# Altium integrated library Protel DOS Schematic Libraries.IntLib: 1273 symbols (part 8 of 9)
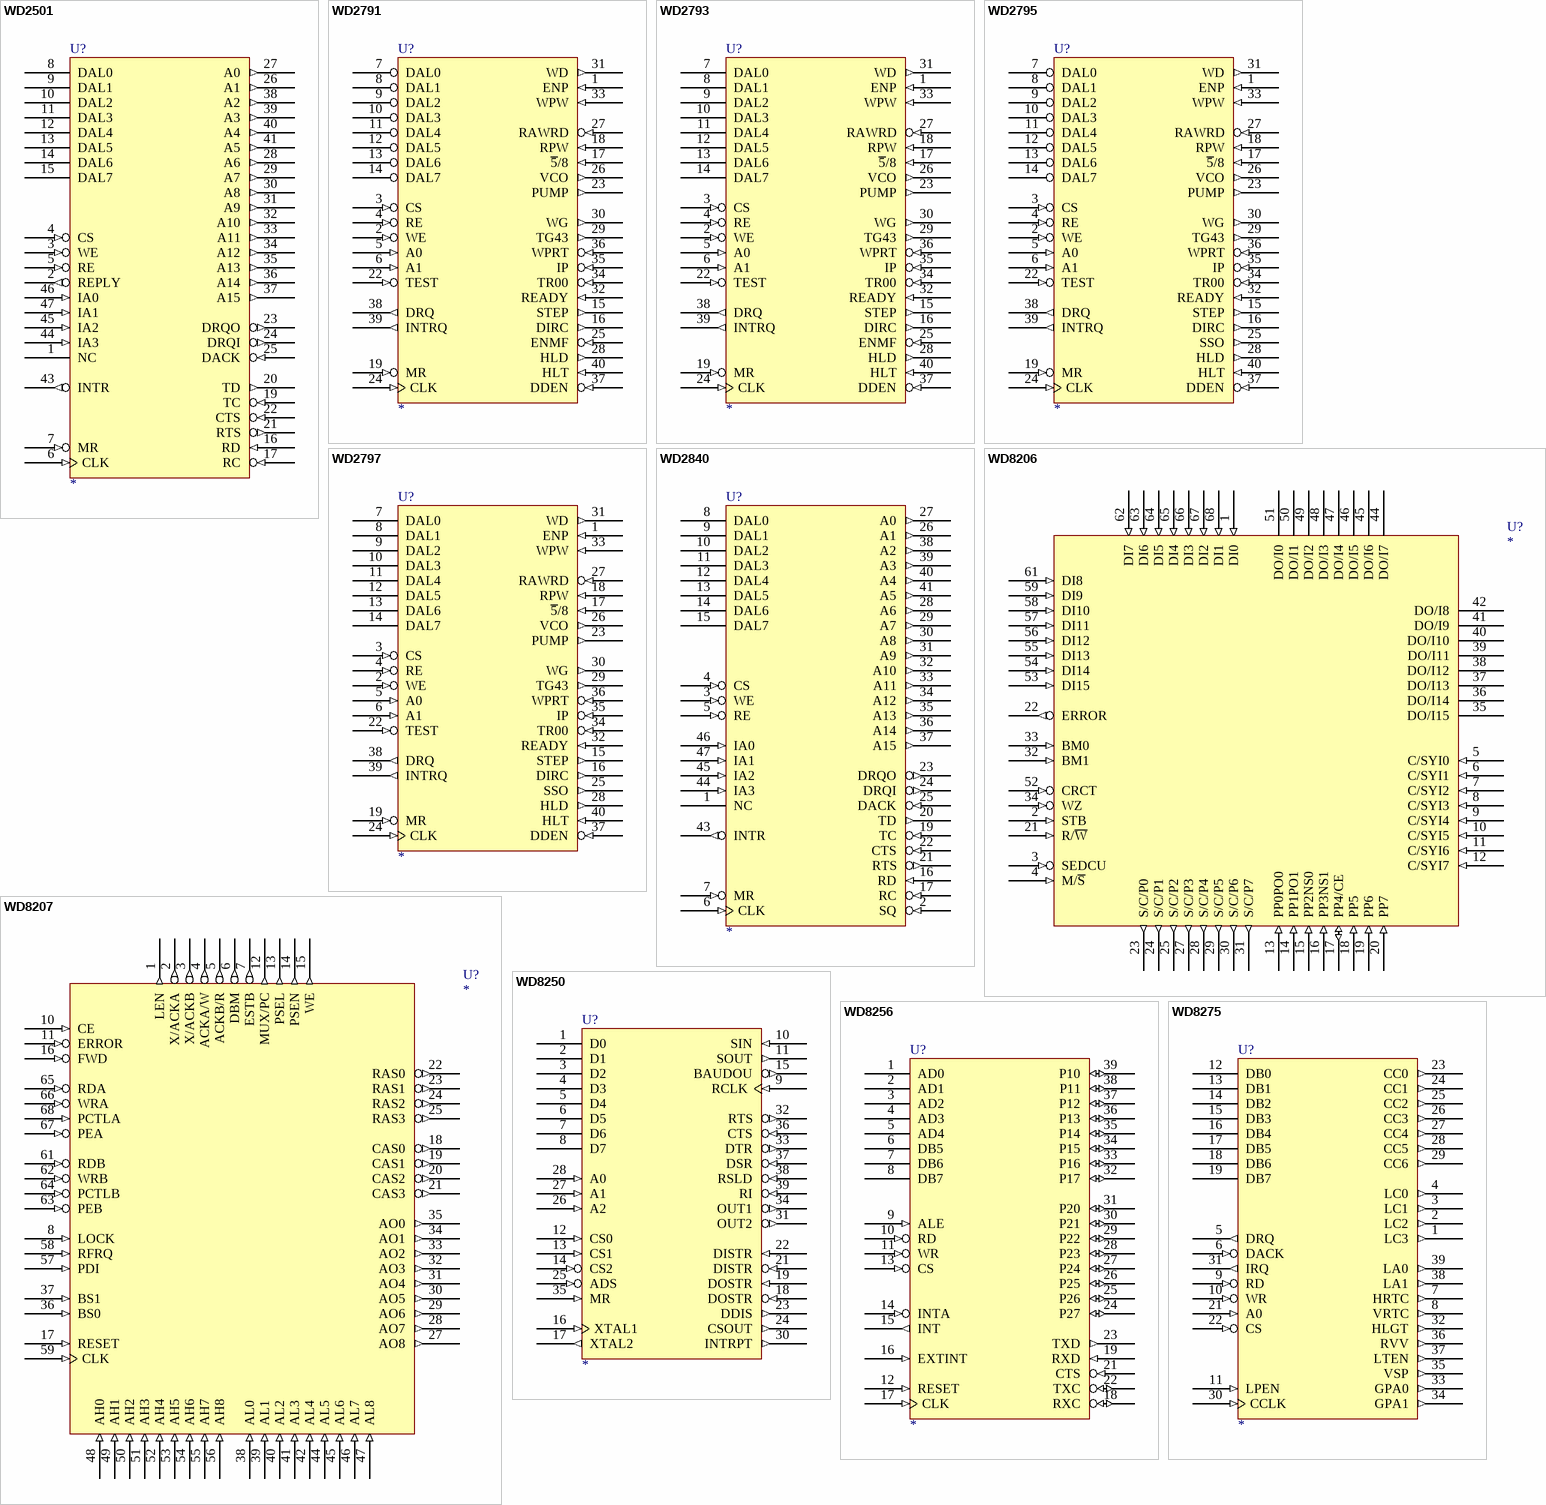
[diagram p76: symbols WD2501 to WD8275]

## WD8207
designator U?
footprint JEDECA-68
pins: 1 LEN (out), 2 X/ACKA (out), 3 X/ACKB (out), 4 ACKA/W (out), 5 ACKB/R (out), 6 DBM (out), 7 ESTB (out), 8 LOCK (in), 9 VCC (power) hidden to VCC, 10 CE (in), 11 ERROR (in), 12 MUX/PC (out), 13 PSEL (out), 14 PSEN (out), 15 WE (out), 16 FWD (in), 17 RESET (in), 18 CAS0 (out), 19 CAS1 (out), 20 CAS2 (out), 21 CAS3 (out), 22 RAS0 (out), 23 RAS1 (out), 24 RAS2 (out), 25 RAS3 (out), 26 GND (power) hidden to GND, 27 AO8 (out), 28 AO7 (out), 29 AO6 (out), 30 AO5 (out), 31 AO4 (out), 32 AO3 (out), 33 AO2 (out), 34 AO1 (out), 35 AO0 (out), 36 BS0 (in), 37 BS1 (in), 38 AL0 (in), 39 AL1 (in), 40 AL2 (in), 41 AL3 (in), 42 AL4 (in), 43 VCC (power) hidden to VCC, 44 AL5 (in), 45 AL6 (in), 46 AL7 (in), 47 AL8 (in), 48 AH0 (in), 49 AH1 (in), 50 AH2 (in), 51 AH3 (in), 52 AH4 (in), 53 AH5 (in), 54 AH6 (in), 55 AH7 (in), 56 AH8 (in), 57 PDI (in), 58 RFRQ (in), 59 CLK (in), 60 GND (power) hidden to GND, 61 RDB (in), 62 WRB (in), 63 PEB (in), 64 PCTLB (in), 65 RDA (in), 66 WRA (in), 67 PEA (in), 68 PCTLA (in)

## WD8250
designator U?
footprint DIP-40
pins: 1 D0 (hiz), 2 D1 (hiz), 3 D2 (hiz), 4 D3 (hiz), 5 D4 (hiz), 6 D5 (hiz), 7 D6 (hiz), 8 D7 (hiz), 9 RCLK (in), 10 SIN (in), 11 SOUT (out), 12 CS0 (in), 13 CS1 (in), 14 CS2 (in), 15 BAUDOU (out), 16 XTAL1 (in), 17 XTAL2 (out), 18 DOSTR (in), 19 DOSTR (in), 20 GND (power) hidden to GND, 21 DISTR (in), 22 DISTR (in), 23 DDIS (out), 24 CSOUT (out), 25 ADS (in), 26 A2 (in), 27 A1 (in), 28 A0 (in), 30 INTRPT (out), 31 OUT2 (out), 32 RTS (out), 33 DTR (out), 34 OUT1 (out), 35 MR (in), 36 CTS (in), 37 DSR (in), 38 RSLD (in), 39 RI (in), 40 VCC (power) hidden to VCC

## WD8256
designator U?
footprint DIP-40
pins: 1 AD0 (hiz), 2 AD1 (hiz), 3 AD2 (hiz), 4 AD3 (hiz), 5 AD4 (hiz), 6 DB5 (hiz), 7 DB6 (hiz), 8 DB7 (hiz), 9 ALE (in), 10 RD (in), 11 WR (in), 12 RESET (in), 13 CS (in), 14 INTA (in), 15 INT (out), 16 EXTINT (in), 17 CLK (in), 18 RXC (io), 19 RXD (in), 20 GND (power) hidden to GND, 21 CTS (in), 22 TXC (io), 23 TXD (out), 24 P27 (io), 25 P26 (io), 26 P25 (io), 27 P24 (io), 28 P23 (io), 29 P22 (io), 30 P21 (io), 31 P20 (io), 32 P17 (io), 33 P16 (io), 34 P15 (io), 35 P14 (io), 36 P13 (io), 37 P12 (io), 38 P11 (io), 39 P10 (io), 40 VCC (power) hidden to VCC

## WD8275
designator U?
footprint DIP-40
pins: 1 LC3 (out), 2 LC2 (out), 3 LC1 (out), 4 LC0 (out), 5 DRQ (out), 6 DACK (in), 7 HRTC (out), 8 VRTC (out), 9 RD (in), 10 WR (in), 11 LPEN (in), 12 DB0 (hiz), 13 DB1 (hiz), 14 DB2 (hiz), 15 DB3 (hiz), 16 DB4 (hiz), 17 DB5 (hiz), 18 DB6 (hiz), 19 DB7 (hiz), 20 GND (power) hidden to GND, 21 A0 (in), 22 CS (in), 23 CC0 (out), 24 CC1 (out), 25 CC2 (out), 26 CC3 (out), 27 CC4 (out), 28 CC5 (out), 29 CC6 (out), 30 CCLK (in), 31 IRQ (out), 32 HLGT (out), 33 GPA0 (out), 34 GPA1 (out), 35 VSP (out), 36 RVV (out), 37 LTEN (out), 38 LA1 (out), 39 LA0 (out), 40 VCC (power) hidden to VCC

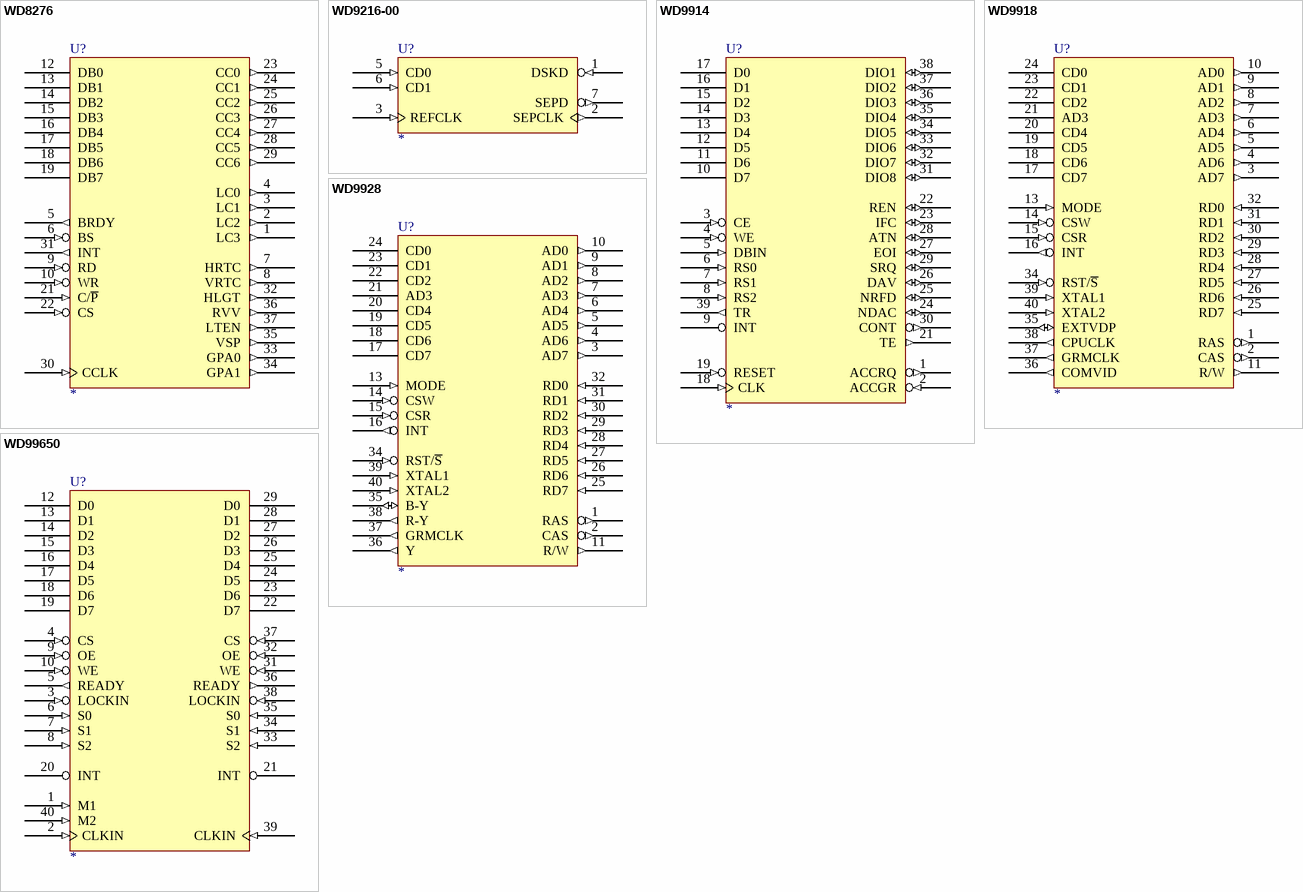
[diagram p56: symbols WD8276 to WD99650]

## WD8276
designator U?
footprint DIP-40
pins: 1 LC3 (out), 2 LC2 (out), 3 LC1 (out), 4 LC0 (out), 5 BRDY (out), 6 BS (in), 7 HRTC (out), 8 VRTC (out), 9 RD (in), 10 WR (in), 12 DB0 (hiz), 13 DB1 (hiz), 14 DB2 (hiz), 15 DB3 (hiz), 16 DB4 (hiz), 17 DB5 (hiz), 18 DB6 (hiz), 19 DB7 (hiz), 20 GND (power) hidden to GND, 21 C/~{P} (in), 22 CS (in), 23 CC0 (out), 24 CC1 (out), 25 CC2 (out), 26 CC3 (out), 27 CC4 (out), 28 CC5 (out), 29 CC6 (out), 30 CCLK (in), 31 INT (out), 32 HLGT (out), 33 GPA0 (out), 34 GPA1 (out), 35 VSP (out), 36 RVV (out), 37 LTEN (out), 40 VCC (power) hidden to VCC

## WD9216-00
designator U?
footprint DIP-8
pins: 1 DSKD (in), 2 SEPCLK (out), 3 REFCLK (in), 4 GND (power) hidden to GND, 5 CD0 (in), 6 CD1 (in), 7 SEPD (out), 8 VCC (power) hidden to VCC

## WD9914
designator U?
footprint DIP-40
pins: 1 ACCRQ (out), 2 ACCGR (in), 3 CE (in), 4 WE (in), 5 DBIN (in), 6 RS0 (in), 7 RS1 (in), 8 RS2 (in), 9 INT (oc), 10 D7 (hiz), 11 D6 (hiz), 12 D5 (hiz), 13 D4 (hiz), 14 D3 (hiz), 15 D2 (hiz), 16 D1 (hiz), 17 D0 (hiz), 18 CLK (in), 19 RESET (in), 20 GND (power) hidden to GND, 21 TE (out), 22 REN (io), 23 IFC (io), 24 NDAC (io), 25 NRFD (io), 26 DAV (io), 27 EOI (io), 28 ATN (io), 29 SRQ (io), 30 CONT (out), 31 DIO8 (io), 32 DIO7 (io), 33 DIO6 (io), 34 DIO5 (io), 35 DIO4 (io), 36 DIO3 (io), 37 DIO2 (io), 38 DIO1 (io), 39 TR (out), 40 VCC (power) hidden to VCC

## WD9918
designator U?
footprint DIP-40
pins: 1 RAS (out), 2 CAS (out), 3 AD7 (out), 4 AD6 (out), 5 AD5 (out), 6 AD4 (out), 7 AD3 (out), 8 AD2 (out), 9 AD1 (out), 10 AD0 (out), 11 R/W (out), 12 GND (power) hidden to GND, 13 MODE (in), 14 CSW (in), 15 CSR (in), 16 INT (out), 17 CD7 (hiz), 18 CD6 (hiz), 19 CD5 (hiz), 20 CD4 (hiz), 21 AD3 (hiz), 22 CD2 (hiz), 23 CD1 (hiz), 24 CD0 (hiz), 25 RD7 (in), 26 RD6 (in), 27 RD5 (in), 28 RD4 (in), 29 RD3 (in), 30 RD2 (in), 31 RD1 (in), 32 RD0 (in), 33 VCC (power) hidden to VCC, 34 RST/~{S} (in), 35 EXTVDP (io), 36 COMVID (out), 37 GRMCLK (out), 38 CPUCLK (out), 39 XTAL1 (in), 40 XTAL2 (in)

## WD9928
designator U?
footprint DIP-40
pins: 1 RAS (out), 2 CAS (out), 3 AD7 (out), 4 AD6 (out), 5 AD5 (out), 6 AD4 (out), 7 AD3 (out), 8 AD2 (out), 9 AD1 (out), 10 AD0 (out), 11 R/W (out), 12 GND (power) hidden to GND, 13 MODE (in), 14 CSW (in), 15 CSR (in), 16 INT (out), 17 CD7 (hiz), 18 CD6 (hiz), 19 CD5 (hiz), 20 CD4 (hiz), 21 AD3 (hiz), 22 CD2 (hiz), 23 CD1 (hiz), 24 CD0 (hiz), 25 RD7 (in), 26 RD6 (in), 27 RD5 (in), 28 RD4 (in), 29 RD3 (in), 30 RD2 (in), 31 RD1 (in), 32 RD0 (in), 33 VCC (power) hidden to VCC, 34 RST/~{S} (in), 35 B-Y (io), 36 Y (out), 37 GRMCLK (out), 38 R-Y (out), 39 XTAL1 (in), 40 XTAL2 (in)

## WD99650
designator U?
footprint DIP-40
pins: 1 M1 (in), 2 CLKIN (in), 3 LOCKIN (in), 4 CS (in), 5 READY (out), 6 S0 (in), 7 S1 (in), 8 S2 (in), 9 OE (in), 10 WE (in), 11 GND (power) hidden to GND, 12 D0 (hiz), 13 D1 (hiz), 14 D2 (hiz), 15 D3 (hiz), 16 D4 (hiz), 17 D5 (hiz), 18 D6 (hiz), 19 D7 (hiz), 20 INT (oc), 21 INT (oc), 22 D7 (hiz), 23 D6 (hiz), 24 D5 (hiz), 25 D4 (hiz), 26 D3 (hiz), 27 D2 (hiz), 28 D1 (hiz), 29 D0 (hiz), 30 VCC (power) hidden to VCC, 31 WE (in), 32 OE (in), 33 S2 (in), 34 S1 (in), 35 S0 (in), 36 READY (out), 37 CS (in), 38 LOCKIN (in), 39 CLKIN (in), 40 M2 (in)


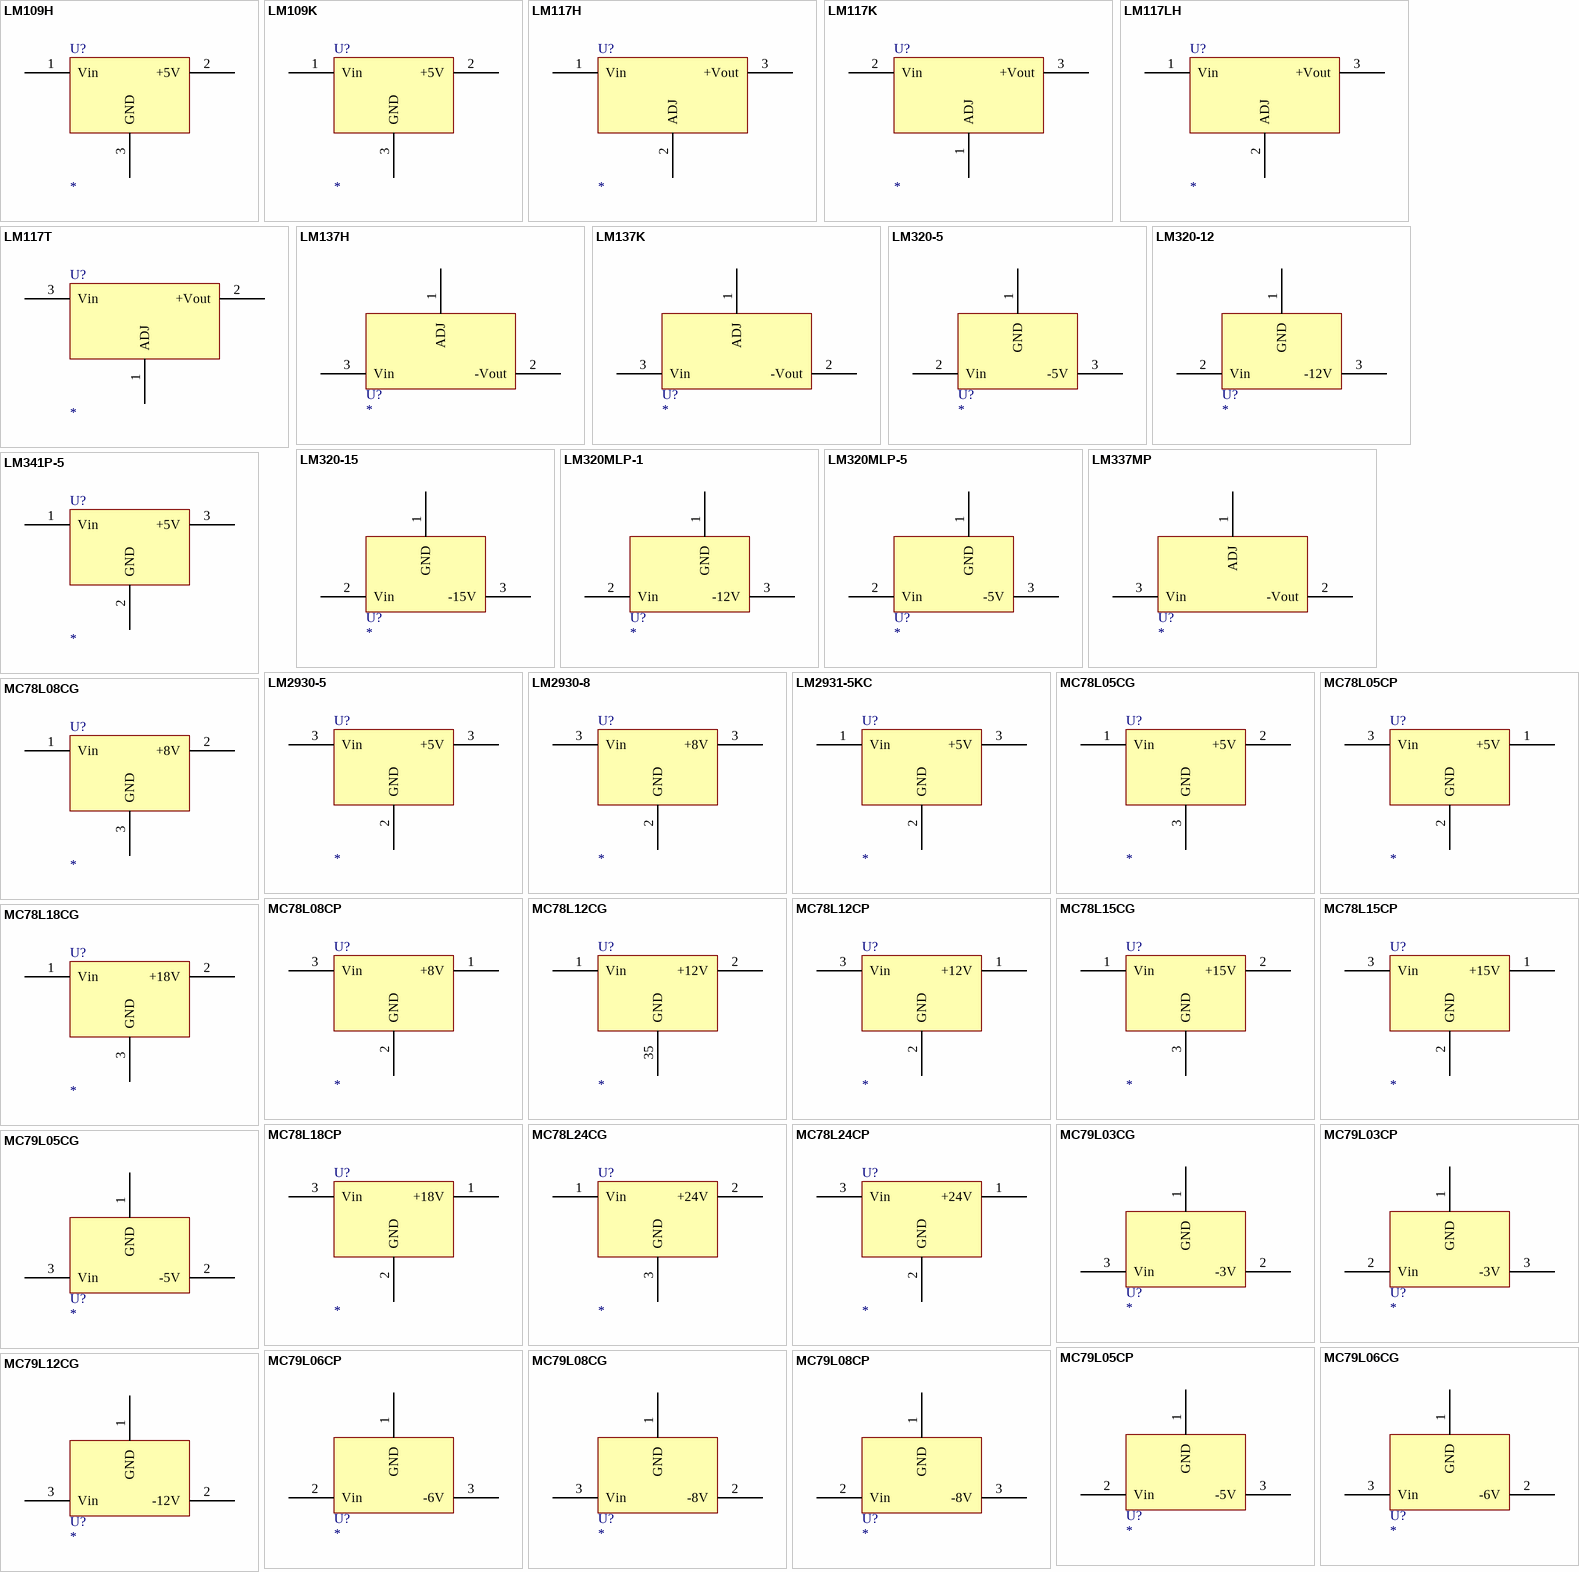
[diagram p57: symbols LM109H to MC79L12CG]

## LM109H
designator U?
footprint TO-39
pins: 1 Vin, 2 +5V, 3 GND

## LM109K
designator U?
footprint TO-3
pins: 1 Vin, 2 +5V, 3 GND

## LM117H
designator U?
footprint TO-39
pins: 1 Vin, 2 ADJ, 3 +Vout

## LM117K
designator U?
footprint TO-3
pins: 1 ADJ, 2 Vin, 3 +Vout

## LM117LH
designator U?
footprint TO-39
pins: 1 Vin, 2 ADJ, 3 +Vout

## LM117T
designator U?
footprint TO220H
pins: 1 ADJ, 2 +Vout, 3 Vin

## LM137H
designator U?
footprint TO-39
pins: 1 ADJ, 2 -Vout, 3 Vin

## LM137K
designator U?
footprint TO-3
pins: 1 ADJ, 2 -Vout, 3 Vin

## LM320-5
designator U?
footprint TO220H
pins: 1 GND, 2 Vin, 3 -5V

## LM320-12
designator U?
footprint TO220H
pins: 1 GND, 2 Vin, 3 -12V

## LM320-15
designator U?
footprint TO220H
pins: 1 GND, 2 Vin, 3 -15V

## LM320MLP-1
designator U?
footprint TO202H
pins: 1 GND, 2 Vin, 3 -12V

## LM320MLP-5
designator U?
footprint TO202H
pins: 1 GND, 2 Vin, 3 -5V

## LM337MP
designator U?
footprint TO202H
pins: 1 ADJ, 2 -Vout, 3 Vin

## LM341P-5
designator U?
footprint TO202H
pins: 1 Vin, 2 GND, 3 +5V

## LM2930-5
designator U?
footprint TO220H
pins: 2 GND, 3 Vin, 3 +5V

## LM2930-8
designator U?
footprint TO220H
pins: 2 GND, 3 Vin, 3 +8V

## LM2931-5KC
designator U?
footprint TO220H
pins: 1 Vin, 2 GND, 3 +5V

## MC78L05CG
designator U?
footprint TO-39
pins: 1 Vin, 2 +5V, 3 GND

## MC78L05CP
designator U?
footprint TO-92A
pins: 1 +5V, 2 GND, 3 Vin

## MC78L08CG
designator U?
footprint TO-39
pins: 1 Vin, 2 +8V, 3 GND

## MC78L08CP
designator U?
footprint TO-92A
pins: 1 +8V, 2 GND, 3 Vin

## MC78L12CG
designator U?
footprint TO-39
pins: 1 Vin, 2 +12V, 35 GND

## MC78L12CP
designator U?
footprint TO-92A
pins: 1 +12V, 2 GND, 3 Vin

## MC78L15CG
designator U?
footprint TO-39
pins: 1 Vin, 2 +15V, 3 GND

## MC78L15CP
designator U?
footprint TO-92A
pins: 1 +15V, 2 GND, 3 Vin

## MC78L18CG
designator U?
footprint TO-39
pins: 1 Vin, 2 +18V, 3 GND

## MC78L18CP
designator U?
footprint TO-92A
pins: 1 +18V, 2 GND, 3 Vin

## MC78L24CG
designator U?
footprint TO-39
pins: 1 Vin, 2 +24V, 3 GND

## MC78L24CP
designator U?
footprint TO-92A
pins: 1 +24V, 2 GND, 3 Vin

## MC79L03CG
designator U?
footprint TO-39
pins: 1 GND, 2 -3V, 3 Vin

## MC79L03CP
designator U?
footprint TO-92A
pins: 1 GND, 2 Vin, 3 -3V

## MC79L05CG
designator U?
footprint TO-39
pins: 1 GND, 2 -5V, 3 Vin

## MC79L05CP
designator U?
footprint TO-92A
pins: 1 GND, 2 Vin, 3 -5V

## MC79L06CG
designator U?
footprint TO-39
pins: 1 GND, 2 -6V, 3 Vin

## MC79L06CP
designator U?
footprint TO-92A
pins: 1 GND, 2 Vin, 3 -6V

## MC79L08CG
designator U?
footprint TO-39
pins: 1 GND, 2 -8V, 3 Vin

## MC79L08CP
designator U?
footprint TO-92A
pins: 1 GND, 2 Vin, 3 -8V

## MC79L12CG
designator U?
footprint TO-39
pins: 1 GND, 2 -12V, 3 Vin

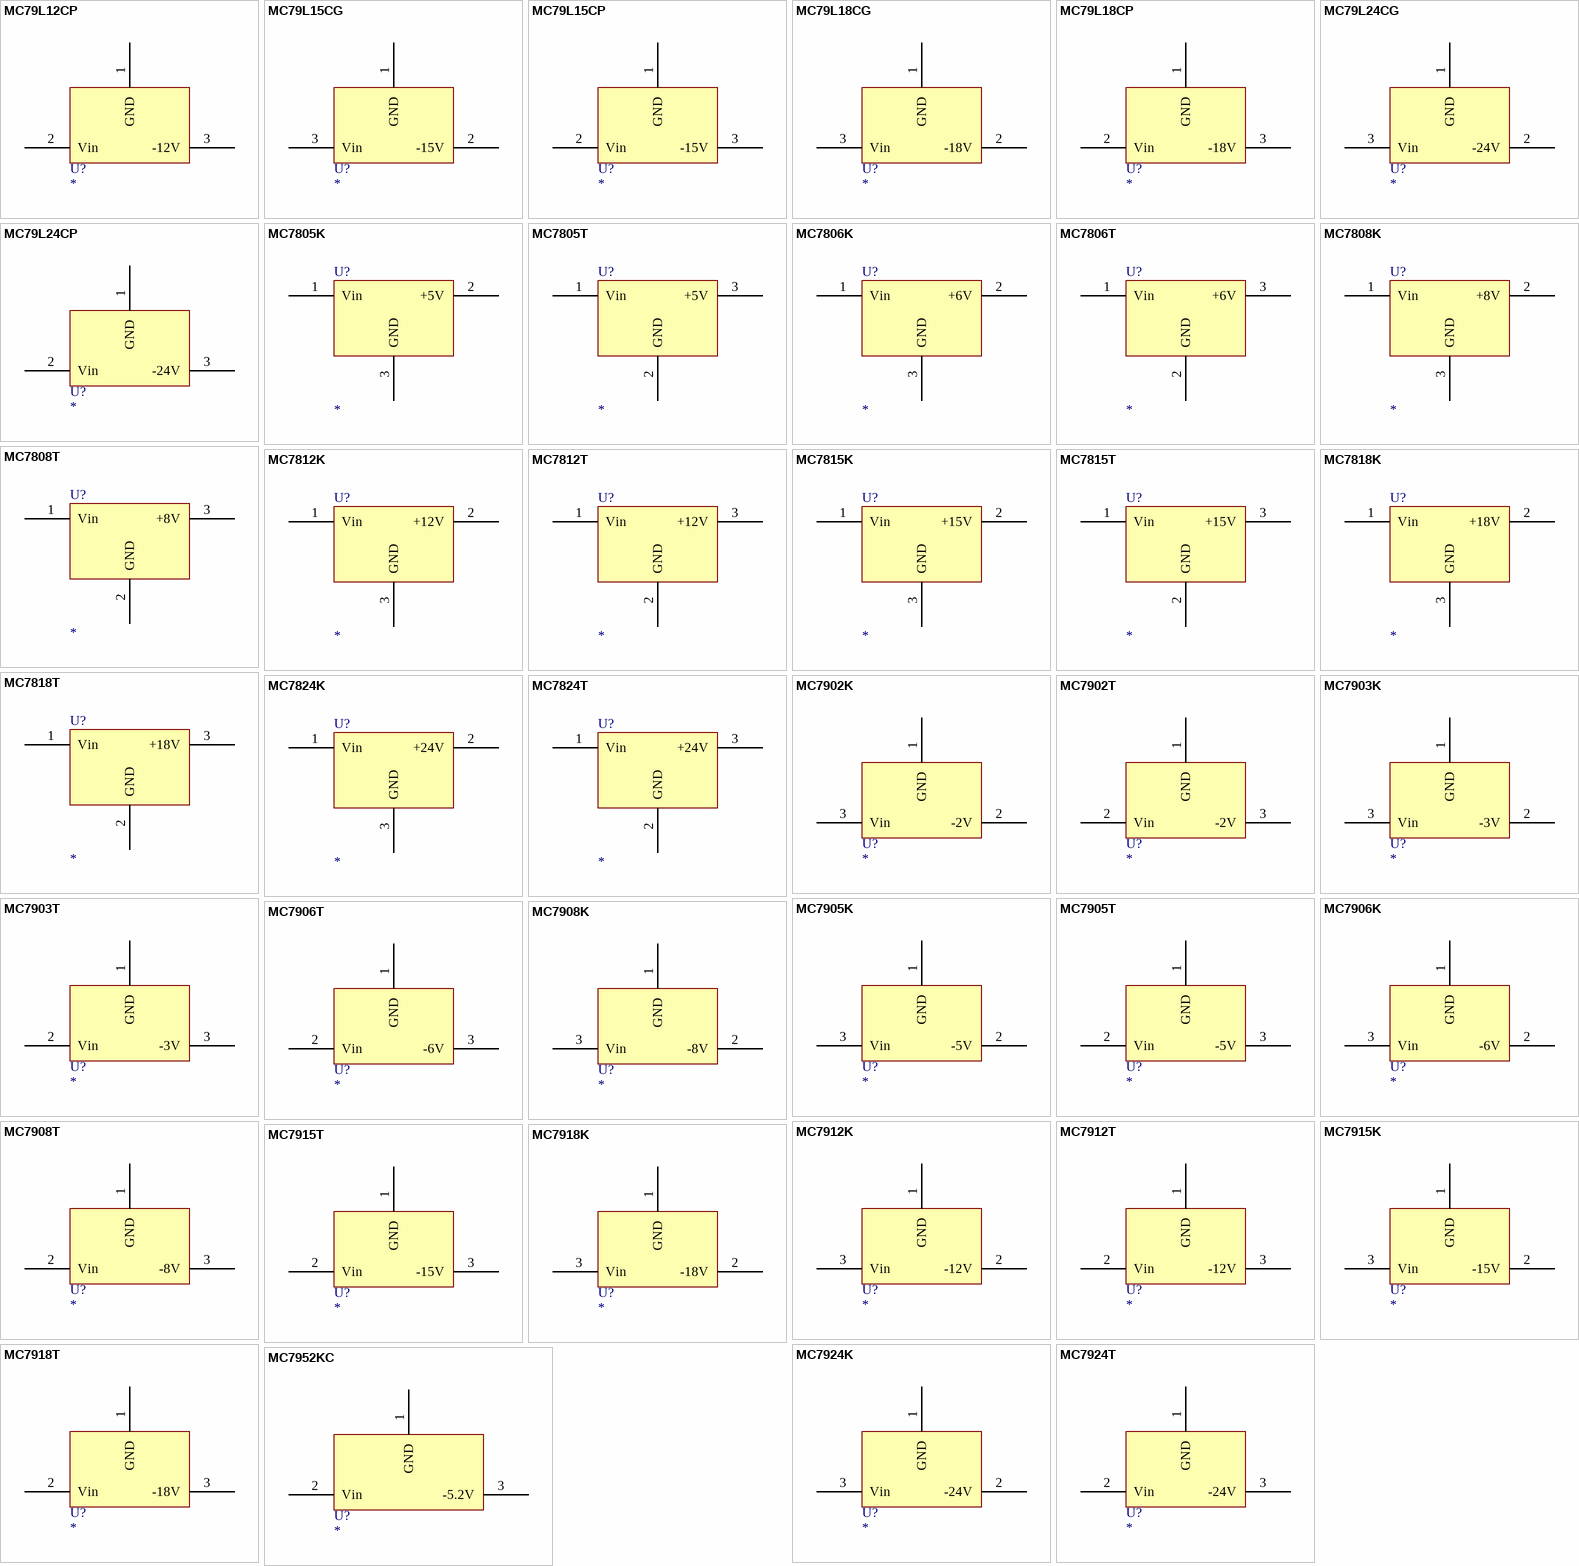
[diagram p58: symbols MC79L12CP to MC7952KC]

## MC79L12CP
designator U?
footprint TO-92A
pins: 1 GND, 2 Vin, 3 -12V

## MC79L15CG
designator U?
footprint TO-39
pins: 1 GND, 2 -15V, 3 Vin

## MC79L15CP
designator U?
footprint TO-92A
pins: 1 GND, 2 Vin, 3 -15V

## MC79L18CG
designator U?
footprint TO-39
pins: 1 GND, 2 -18V, 3 Vin

## MC79L18CP
designator U?
footprint TO-92A
pins: 1 GND, 2 Vin, 3 -18V

## MC79L24CG
designator U?
footprint TO-39
pins: 1 GND, 2 -24V, 3 Vin

## MC79L24CP
designator U?
footprint TO-92A
pins: 1 GND, 2 Vin, 3 -24V

## MC7805K
designator U?
footprint TO-3
pins: 1 Vin, 2 +5V, 3 GND

## MC7805T
designator U?
footprint TO220H
pins: 1 Vin, 2 GND, 3 +5V

## MC7806K
designator U?
footprint TO-3
pins: 1 Vin, 2 +6V, 3 GND

## MC7806T
designator U?
footprint TO220H
pins: 1 Vin, 2 GND, 3 +6V

## MC7808K
designator U?
footprint TO-3
pins: 1 Vin, 2 +8V, 3 GND

## MC7808T
designator U?
footprint TO220H
pins: 1 Vin, 2 GND, 3 +8V

## MC7812K
designator U?
footprint TO-3
pins: 1 Vin, 2 +12V, 3 GND

## MC7812T
designator U?
footprint TO220H
pins: 1 Vin, 2 GND, 3 +12V

## MC7815K
designator U?
footprint TO-3
pins: 1 Vin, 2 +15V, 3 GND

## MC7815T
designator U?
footprint TO220H
pins: 1 Vin, 2 GND, 3 +15V

## MC7818K
designator U?
footprint TO-3
pins: 1 Vin, 2 +18V, 3 GND

## MC7818T
designator U?
footprint TO220H
pins: 1 Vin, 2 GND, 3 +18V

## MC7824K
designator U?
footprint TO-3
pins: 1 Vin, 2 +24V, 3 GND

## MC7824T
designator U?
footprint TO220H
pins: 1 Vin, 2 GND, 3 +24V

## MC7902K
designator U?
footprint TO-3
pins: 1 GND, 2 -2V, 3 Vin

## MC7902T
designator U?
footprint TO220H
pins: 1 GND, 2 Vin, 3 -2V

## MC7903K
designator U?
footprint TO-3
pins: 1 GND, 2 -3V, 3 Vin

## MC7903T
designator U?
footprint TO220H
pins: 1 GND, 2 Vin, 3 -3V

## MC7905K
designator U?
footprint TO-3
pins: 1 GND, 2 -5V, 3 Vin

## MC7905T
designator U?
footprint TO220H
pins: 1 GND, 2 Vin, 3 -5V

## MC7906K
designator U?
footprint TO-3
pins: 1 GND, 2 -6V, 3 Vin

## MC7906T
designator U?
footprint TO220H
pins: 1 GND, 2 Vin, 3 -6V

## MC7908K
designator U?
footprint TO-3
pins: 1 GND, 2 -8V, 3 Vin

## MC7908T
designator U?
footprint TO220H
pins: 1 GND, 2 Vin, 3 -8V

## MC7912K
designator U?
footprint TO-3
pins: 1 GND, 2 -12V, 3 Vin

## MC7912T
designator U?
footprint TO220H
pins: 1 GND, 2 Vin, 3 -12V

## MC7915K
designator U?
footprint TO-3
pins: 1 GND, 2 -15V, 3 Vin

## MC7915T
designator U?
footprint TO220H
pins: 1 GND, 2 Vin, 3 -15V

## MC7918K
designator U?
footprint TO-3
pins: 1 GND, 2 -18V, 3 Vin

## MC7918T
designator U?
footprint TO220H
pins: 1 GND, 2 Vin, 3 -18V

## MC7924K
designator U?
footprint TO-3
pins: 1 GND, 2 -24V, 3 Vin

## MC7924T
designator U?
footprint TO220H
pins: 1 GND, 2 Vin, 3 -24V

## MC7952KC
designator U?
footprint TO220H
pins: 1 GND, 2 Vin, 3 -5.2V

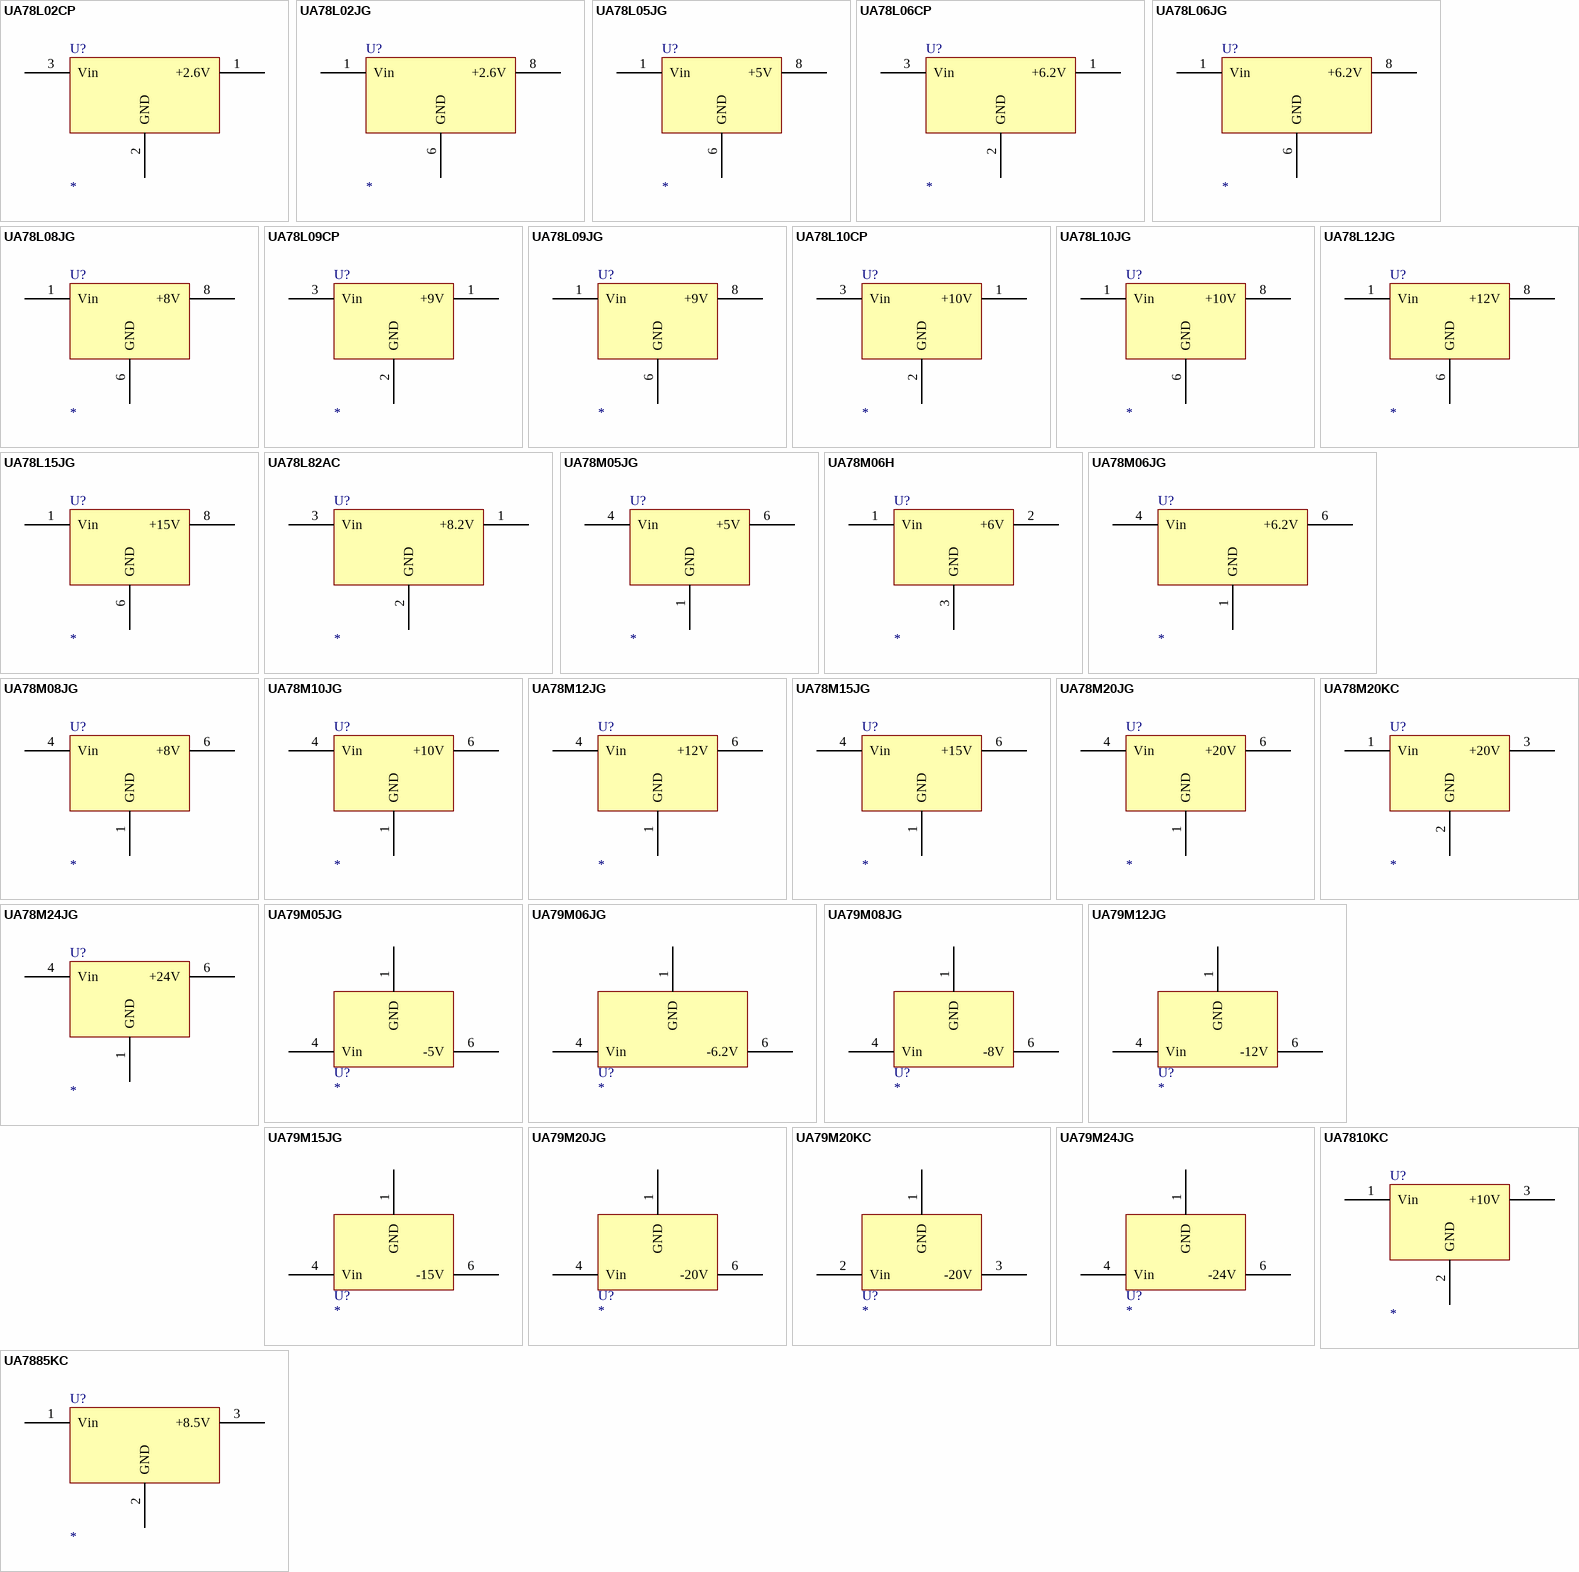
[diagram p59: symbols UA78L02CP to UA7885KC]

## UA78L02CP
designator U?
footprint TO-92A
pins: 1 +2.6V, 2 GND, 3 Vin

## UA78L02JG
designator U?
footprint DIP-8
pins: 1 Vin, 6 GND, 8 +2.6V

## UA78L05JG
designator U?
footprint DIP-8
pins: 1 Vin, 6 GND, 8 +5V

## UA78L06CP
designator U?
footprint TO-92A
pins: 1 +6.2V, 2 GND, 3 Vin

## UA78L06JG
designator U?
footprint DIP-8
pins: 1 Vin, 6 GND, 8 +6.2V

## UA78L08JG
designator U?
footprint DIP-8
pins: 1 Vin, 6 GND, 8 +8V

## UA78L09CP
designator U?
footprint TO-92A
pins: 1 +9V, 2 GND, 3 Vin

## UA78L09JG
designator U?
footprint DIP-8
pins: 1 Vin, 6 GND, 8 +9V

## UA78L10CP
designator U?
footprint TO-92A
pins: 1 +10V, 2 GND, 3 Vin

## UA78L10JG
designator U?
footprint DIP-8
pins: 1 Vin, 6 GND, 8 +10V

## UA78L12JG
designator U?
footprint DIP-8
pins: 1 Vin, 6 GND, 8 +12V

## UA78L15JG
designator U?
footprint DIP-8
pins: 1 Vin, 6 GND, 8 +15V

## UA78L82AC
designator U?
footprint TO-92A
pins: 1 +8.2V, 2 GND, 3 Vin

## UA78M05JG
designator U?
footprint DIP-8
pins: 1 GND, 4 Vin, 6 +5V

## UA78M06H
designator U?
footprint TO-39
pins: 1 Vin, 2 +6V, 3 GND

## UA78M06JG
designator U?
footprint DIP-8
pins: 1 GND, 4 Vin, 6 +6.2V

## UA78M08JG
designator U?
footprint DIP-8
pins: 1 GND, 4 Vin, 6 +8V

## UA78M10JG
designator U?
footprint DIP-8
pins: 1 GND, 4 Vin, 6 +10V

## UA78M12JG
designator U?
footprint DIP-8
pins: 1 GND, 4 Vin, 6 +12V

## UA78M15JG
designator U?
footprint DIP-8
pins: 1 GND, 4 Vin, 6 +15V

## UA78M20JG
designator U?
footprint DIP-8
pins: 1 GND, 4 Vin, 6 +20V

## UA78M20KC
designator U?
footprint TO220H
pins: 1 Vin, 2 GND, 3 +20V

## UA78M24JG
designator U?
footprint DIP-8
pins: 1 GND, 4 Vin, 6 +24V

## UA79M05JG
designator U?
footprint DIP-8
pins: 1 GND, 4 Vin, 6 -5V

## UA79M06JG
designator U?
footprint DIP-8
pins: 1 GND, 4 Vin, 6 -6.2V

## UA79M08JG
designator U?
footprint DIP-8
pins: 1 GND, 4 Vin, 6 -8V

## UA79M12JG
designator U?
footprint DIP-8
pins: 1 GND, 4 Vin, 6 -12V

## UA79M15JG
designator U?
footprint DIP-8
pins: 1 GND, 4 Vin, 6 -15V

## UA79M20JG
designator U?
footprint DIP-8
pins: 1 GND, 4 Vin, 6 -20V

## UA79M20KC
designator U?
footprint TO220H
pins: 1 GND, 2 Vin, 3 -20V

## UA79M24JG
designator U?
footprint DIP-8
pins: 1 GND, 4 Vin, 6 -24V

## UA7810KC
designator U?
footprint TO220H
pins: 1 Vin, 2 GND, 3 +10V

## UA7885KC
designator U?
footprint TO220H
pins: 1 Vin, 2 GND, 3 +8.5V


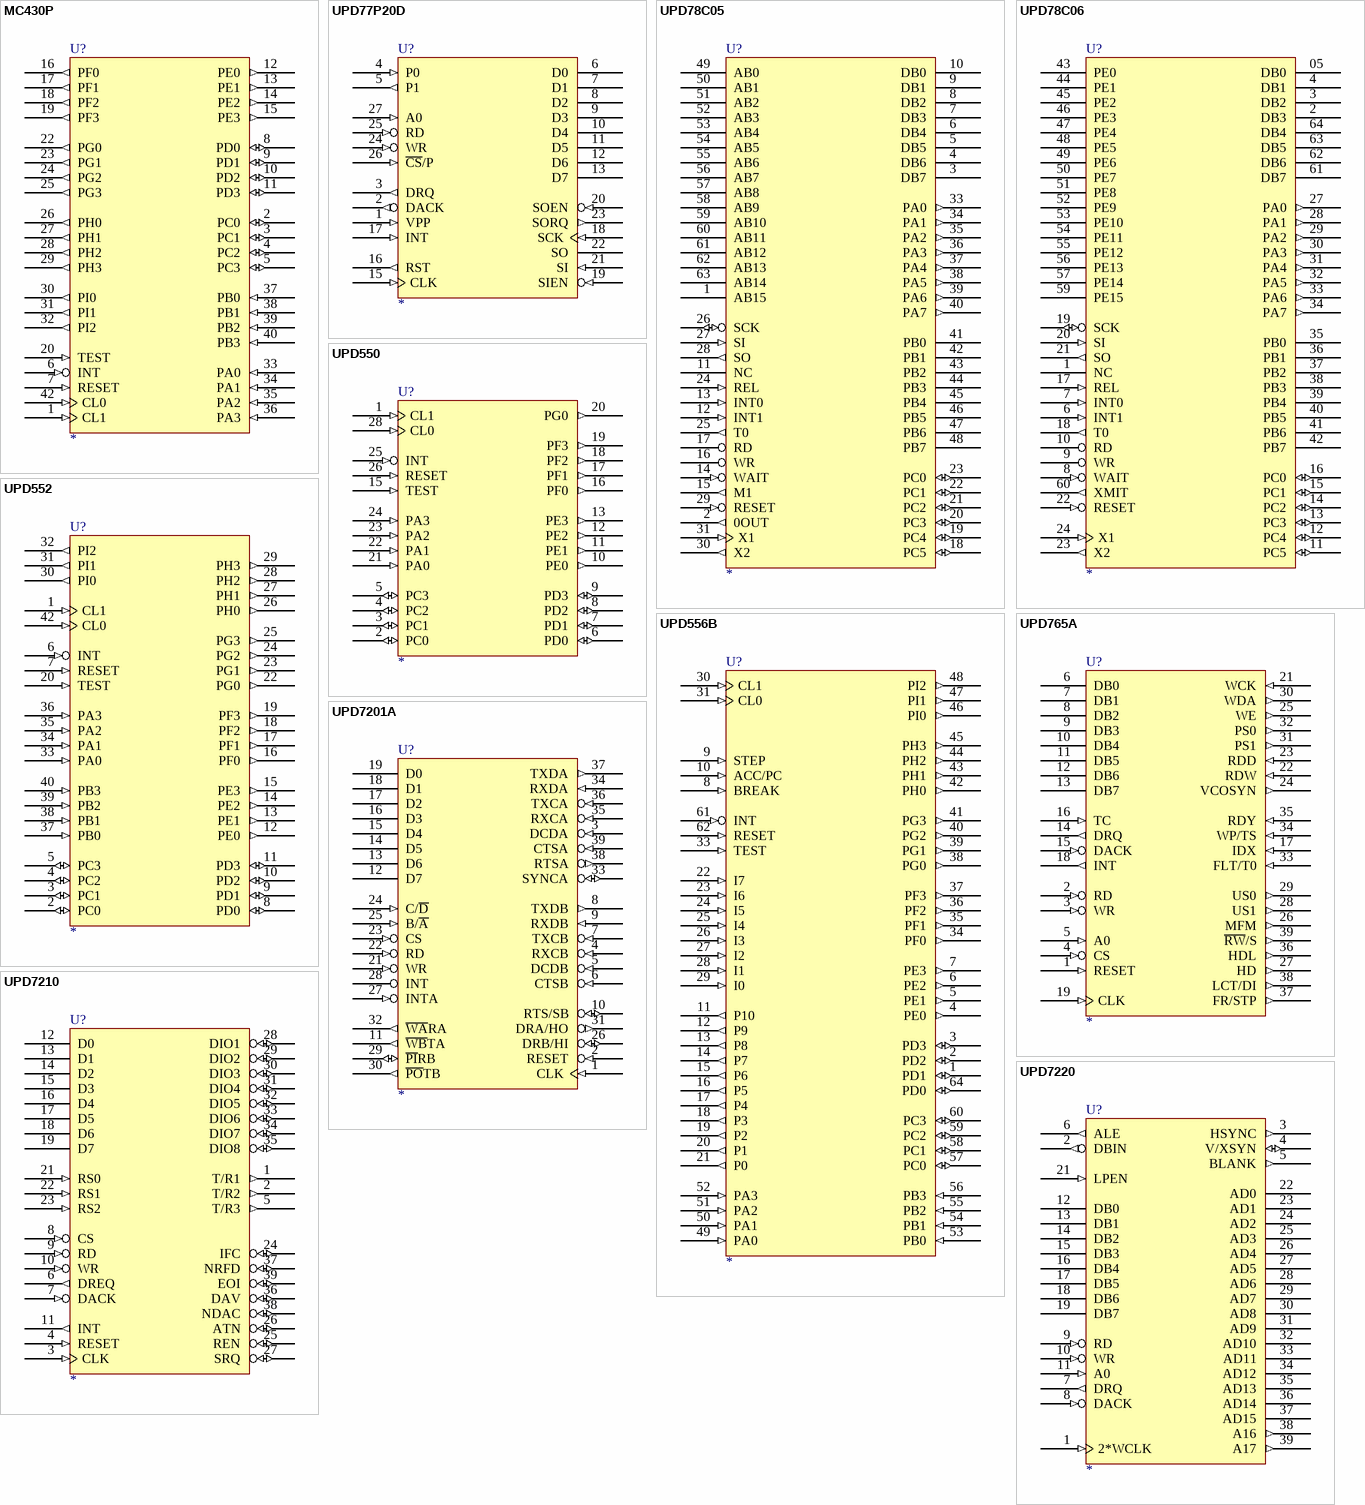
[diagram p60: symbols MC430P to UPD7220]

## MC430P
designator U?
footprint DIP42
pins: 1 CL1 (in), 2 PC0 (io), 3 PC1 (io), 4 PC2 (io), 5 PC3 (io), 6 INT (in), 7 RESET (in), 8 PD0 (io), 9 PD1 (io), 10 PD2 (io), 11 PD3 (io), 12 PE0 (out), 13 PE1 (out), 14 PE2 (out), 15 PE3 (out), 16 PF0 (out), 17 PF1 (out), 18 PF2 (out), 19 PF3 (out), 20 TEST (in), 21 VCC (power) hidden to VCC, 22 PG0 (out), 23 PG1 (out), 24 PG2 (out), 25 PG3 (out), 26 PH0 (out), 27 PH1 (out), 28 PH2 (out), 29 PH3 (out), 30 PI0 (out), 31 PI1 (out), 32 PI2 (out), 33 PA0 (in), 34 PA1 (in), 35 PA2 (in), 36 PA3 (in), 37 PB0 (in), 38 PB1 (in), 39 PB2 (in), 40 PB3 (in), 41 GND (power) hidden to GND, 42 CL0 (in)

## UPD77P20D
designator U?
footprint DIP-28
pins: 1 VPP (in), 2 DACK (out), 3 DRQ (out), 4 P0 (in), 5 P1 (out), 6 D0 (hiz), 7 D1 (hiz), 8 D2 (hiz), 9 D3 (hiz), 10 D4 (hiz), 11 D5 (hiz), 12 D6 (hiz), 13 D7 (hiz), 14 GND (power) hidden to GND, 15 CLK (in), 16 RST (out), 17 INT (in), 18 SCK (in), 19 SIEN (in), 20 SOEN (in), 21 SI (in), 22 SO (hiz), 23 SORQ (out), 24 WR (in), 25 RD (in), 26 ~{CS}/P (in), 27 A0 (in), 28 VCC (power) hidden to VCC

## UPD78C05
designator U?
footprint QUIL64
pins: 1 AB15 (hiz), 2 0OUT (out), 3 DB7 (hiz), 4 DB6 (hiz), 5 DB5 (hiz), 6 DB4 (hiz), 7 DB3 (hiz), 8 DB2 (hiz), 9 DB1 (hiz), 10 DB0 (hiz), 11 NC, 12 INT1 (in), 13 INT0 (in), 14 WAIT (in), 15 M1 (out), 16 WR (hiz), 17 RD (hiz), 18 PC5 (io), 19 PC4 (io), 20 PC3 (io), 21 PC2 (io), 22 PC1 (io), 23 PC0 (io), 24 REL (in), 25 T0 (out), 26 SCK (io), 27 SI (in), 28 SO (out), 29 RESET (in), 30 X2 (out), 31 X1 (in), 32 GND (power) hidden to GND, 33 PA0 (out), 34 PA1 (out), 35 PA2 (out), 36 PA3 (out), 37 PA4 (out), 38 PA5 (out), 39 PA6 (out), 40 PA7 (out), 41 PB0 (hiz), 42 PB1 (hiz), 43 PB2 (hiz), 44 PB3 (hiz), 45 PB4 (hiz), 46 PB5 (hiz), 47 PB6 (hiz), 48 PB7 (hiz), 49 AB0 (hiz), 50 AB1 (hiz), 51 AB2 (hiz), 52 AB3 (hiz), 53 AB4 (hiz), 54 AB5 (hiz), 55 AB6 (hiz), 56 AB7 (hiz), 57 AB8 (hiz), 58 AB9 (hiz), 59 AB10 (hiz), 60 AB11 (hiz), 61 AB12 (hiz), 62 AB13 (hiz), 63 AB14 (hiz), 64 VCC (power) hidden to VCC

## UPD78C06
designator U?
footprint QFP-64
pins: 1 NC, 2 DB3 (hiz), 3 DB2 (hiz), 4 DB1 (hiz), 05 DB0 (hiz), 6 INT1 (in), 7 INT0 (in), 8 WAIT (in), 9 WR (hiz), 10 RD (hiz), 11 PC5 (io), 12 PC4 (io), 13 PC3 (io), 14 PC2 (io), 15 PC1 (io), 16 PC0 (io), 17 REL (in), 18 T0 (out), 19 SCK (io), 20 SI (in), 21 SO (out), 22 RESET (in), 23 X2 (out), 24 X1 (in), 25 GND (power) hidden to GND, 26 VCC (power) hidden to VCC, 27 PA0 (out), 28 PA1 (out), 29 PA2 (out), 30 PA3 (out), 31 PA4 (out), 32 PA5 (out), 33 PA6 (out), 34 PA7 (out), 35 PB0 (hiz), 36 PB1 (hiz), 37 PB2 (hiz), 38 PB3 (hiz), 39 PB4 (hiz), 40 PB5 (hiz), 41 PB6 (hiz), 42 PB7 (hiz), 43 PE0 (hiz), 44 PE1 (hiz), 45 PE2 (hiz), 46 PE3 (hiz), 47 PE4 (hiz), 48 PE5 (hiz), 49 PE6 (hiz), 50 PE7 (hiz), 51 PE8 (hiz), 52 PE9 (hiz), 53 PE10 (hiz), 54 PE11 (hiz), 55 PE12 (hiz), 56 PE13 (hiz), 57 PE14 (hiz), 58 VCC (power) hidden to VCC, 59 PE15 (hiz), 60 XMIT (out), 61 DB7 (hiz), 62 DB6 (hiz), 63 DB5 (hiz), 64 DB4 (hiz)

## UPD550
designator U?
footprint DIP-28
pins: 1 CL1 (in), 2 PC0 (io), 3 PC1 (io), 4 PC2 (io), 5 PC3 (io), 6 PD0 (io), 7 PD1 (io), 8 PD2 (io), 9 PD3 (io), 10 PE0 (out), 11 PE1 (out), 12 PE2 (out), 13 PE3 (out), 14 VCC (power) hidden to VCC, 15 TEST (in), 16 PF0 (out), 17 PF1 (out), 18 PF2 (out), 19 PF3 (out), 20 PG0 (out), 21 PA0 (in), 22 PA1 (in), 23 PA2 (in), 24 PA3 (in), 25 INT (in), 26 RESET (in), 27 GND (power) hidden to GND, 28 CL0 (in)

## UPD552
designator U?
footprint DIP42
pins: 1 CL1 (in), 2 PC0 (io), 3 PC1 (io), 4 PC2 (io), 5 PC3 (io), 6 INT (in), 7 RESET (in), 8 PD0 (io), 9 PD1 (io), 10 PD2 (io), 11 PD3 (io), 12 PE0 (out), 13 PE1 (out), 14 PE2 (out), 15 PE3 (out), 16 PF0 (out), 17 PF1 (out), 18 PF2 (out), 19 PF3 (out), 20 TEST (in), 21 VCC (power) hidden to VCC, 22 PG0 (out), 23 PG1 (out), 24 PG2 (out), 25 PG3 (out), 26 PH0 (out), 27 PH1 (out), 28 PH2 (out), 29 PH3 (out), 30 PI0 (out), 31 PI1 (out), 32 PI2 (out), 33 PA0 (in), 34 PA1 (in), 35 PA2 (in), 36 PA3 (in), 37 PB0 (in), 38 PB1 (in), 39 PB2 (in), 40 PB3 (in), 41 GND (power) hidden to GND, 42 CL0 (in)

## UPD556B
designator U?
footprint DIP-64
pins: 1 PD1 (io), 2 PD2 (io), 3 PD3 (io), 4 PE0 (out), 5 PE1 (out), 6 PE2 (out), 7 PE3 (out), 8 BREAK (in), 9 STEP (in), 10 ACC/PC (in), 11 P10 (out), 12 P9 (out), 13 P8 (out), 14 P7 (out), 15 P6 (out), 16 P5 (out), 17 P4 (out), 18 P3 (out), 19 P2 (out), 20 P1 (out), 21 P0 (out), 22 I7 (in), 23 I6 (in), 24 I5 (in), 25 I4 (in), 26 I3 (in), 27 I2 (in), 28 I1 (in), 29 I0 (in), 30 CL1 (in), 31 CL0 (in), 32 VCC (power) hidden to VCC, 33 TEST (in), 34 PF0 (out), 35 PF1 (out), 36 PF2 (out), 37 PF3 (out), 38 PG0 (out), 39 PG1 (out), 40 PG2 (out), 41 PG3 (out), 42 PH0 (out), 43 PH1 (out), 44 PH2 (out), 45 PH3 (out), 46 PI0 (out), 47 PI1 (out), 48 PI2 (out), 49 PA0 (in), 50 PA1 (in), 51 PA2 (in), 52 PA3 (in), 53 PB0 (in), 54 PB1 (in), 55 PB2 (in), 56 PB3 (in), 57 PC0 (io), 58 PC1 (io), 59 PC2 (io), 60 PC3 (io), 61 INT (in), 62 RESET (in), 63 GND (power) hidden to GND, 64 PD0 (io)

## UPD765A
designator U?
footprint DIP-40
pins: 1 RESET (in), 2 RD (in), 3 WR (in), 4 CS (in), 5 A0 (in), 6 DB0 (hiz), 7 DB1 (hiz), 8 DB2 (hiz), 9 DB3 (hiz), 10 DB4 (hiz), 11 DB5 (hiz), 12 DB6 (hiz), 13 DB7 (hiz), 14 DRQ (out), 15 DACK (in), 16 TC (in), 17 IDX (in), 18 INT (out), 19 CLK (in), 20 GND (power) hidden to GND, 21 WCK (in), 22 RDW (in), 23 RDD (in), 24 VCOSYN (out), 25 WE (out), 26 MFM (out), 27 HD (out), 28 US1 (out), 29 US0 (out), 30 WDA (out), 31 PS1 (out), 32 PS0 (out), 33 FLT/T0 (in), 34 WP/TS (in), 35 RDY (in), 36 HDL (out), 37 FR/STP (out), 38 LCT/DI (out), 39 ~{RW}/S (out), 40 VCC (power) hidden to VCC

## UPD7201A
designator U?
footprint DIP-40
pins: 1 CLK (in), 2 RESET (in), 3 DCDA (in), 4 RXCB (in), 5 DCDB (in), 6 CTSB (in), 7 TXCB (in), 8 TXDB (out), 9 RXDB (in), 10 RTS/SB (io), 11 ~{WB}TA (out), 12 D7 (hiz), 13 D6 (hiz), 14 D5 (hiz), 15 D4 (hiz), 16 D3 (hiz), 17 D2 (hiz), 18 D1 (hiz), 19 D0 (hiz), 20 VCC (power) hidden to VCC, 21 WR (in), 22 RD (in), 23 CS (in), 24 C/~{D} (in), 25 B/~{A} (in), 26 DRB/HI (io), 27 INTA (in), 28 INT (oc), 29 ~{PI}RB (io), 30 ~{PO}TB (out), 31 DRA/HO (out), 32 ~{WA}RA (out), 33 SYNCA (io), 34 RXDA (in), 35 RXCA (in), 36 TXCA (in), 37 TXDA (out), 38 RTSA (out), 39 CTSA (in), 40 GND (power) hidden to GND

## UPD7210
designator U?
footprint DIP-40
pins: 1 T/R1 (out), 2 T/R2 (out), 3 CLK (in), 4 RESET (in), 5 T/R3 (out), 6 DREQ (out), 7 DACK (in), 8 CS (in), 9 RD (in), 10 WR (in), 11 INT (out), 12 D0 (hiz), 13 D1 (hiz), 14 D2 (hiz), 15 D3 (hiz), 16 D4 (hiz), 17 D5 (hiz), 18 D6 (hiz), 19 D7 (hiz), 20 GND (power) hidden to GND, 21 RS0 (in), 22 RS1 (in), 23 RS2 (in), 24 IFC (io), 25 REN (io), 26 ATN (io), 27 SRQ (io), 28 DIO1 (io), 29 DIO2 (io), 30 DIO3 (io), 31 DIO4 (io), 32 DIO5 (io), 33 DIO6 (io), 34 DIO7 (io), 35 DIO8 (io), 36 DAV (io), 37 NRFD (io), 38 NDAC (io), 39 EOI (io), 40 VCC (power) hidden to VCC

## UPD7220
designator U?
footprint DIP-40
pins: 1 2*WCLK (in), 2 DBIN (out), 3 HSYNC (out), 4 V/XSYN (io), 5 BLANK (out), 6 ALE (out), 7 DRQ (out), 8 DACK (in), 9 RD (in), 10 WR (in), 11 A0 (in), 12 DB0 (hiz), 13 DB1 (hiz), 14 DB2 (hiz), 15 DB3 (hiz), 16 DB4 (hiz), 17 DB5 (hiz), 18 DB6 (hiz), 19 DB7 (hiz), 20 GND (power) hidden to GND, 21 LPEN (in), 22 AD0 (hiz), 23 AD1 (hiz), 24 AD2 (hiz), 25 AD3 (hiz), 26 AD4 (hiz), 27 AD5 (hiz), 28 AD6 (hiz), 29 AD7 (hiz), 30 AD8 (hiz), 31 AD9 (hiz), 32 AD10 (hiz), 33 AD11 (hiz), 34 AD12 (hiz), 35 AD13 (hiz), 36 AD14 (hiz), 37 AD15 (hiz), 38 A16 (out), 39 A17 (out), 40 VCC (power) hidden to VCC

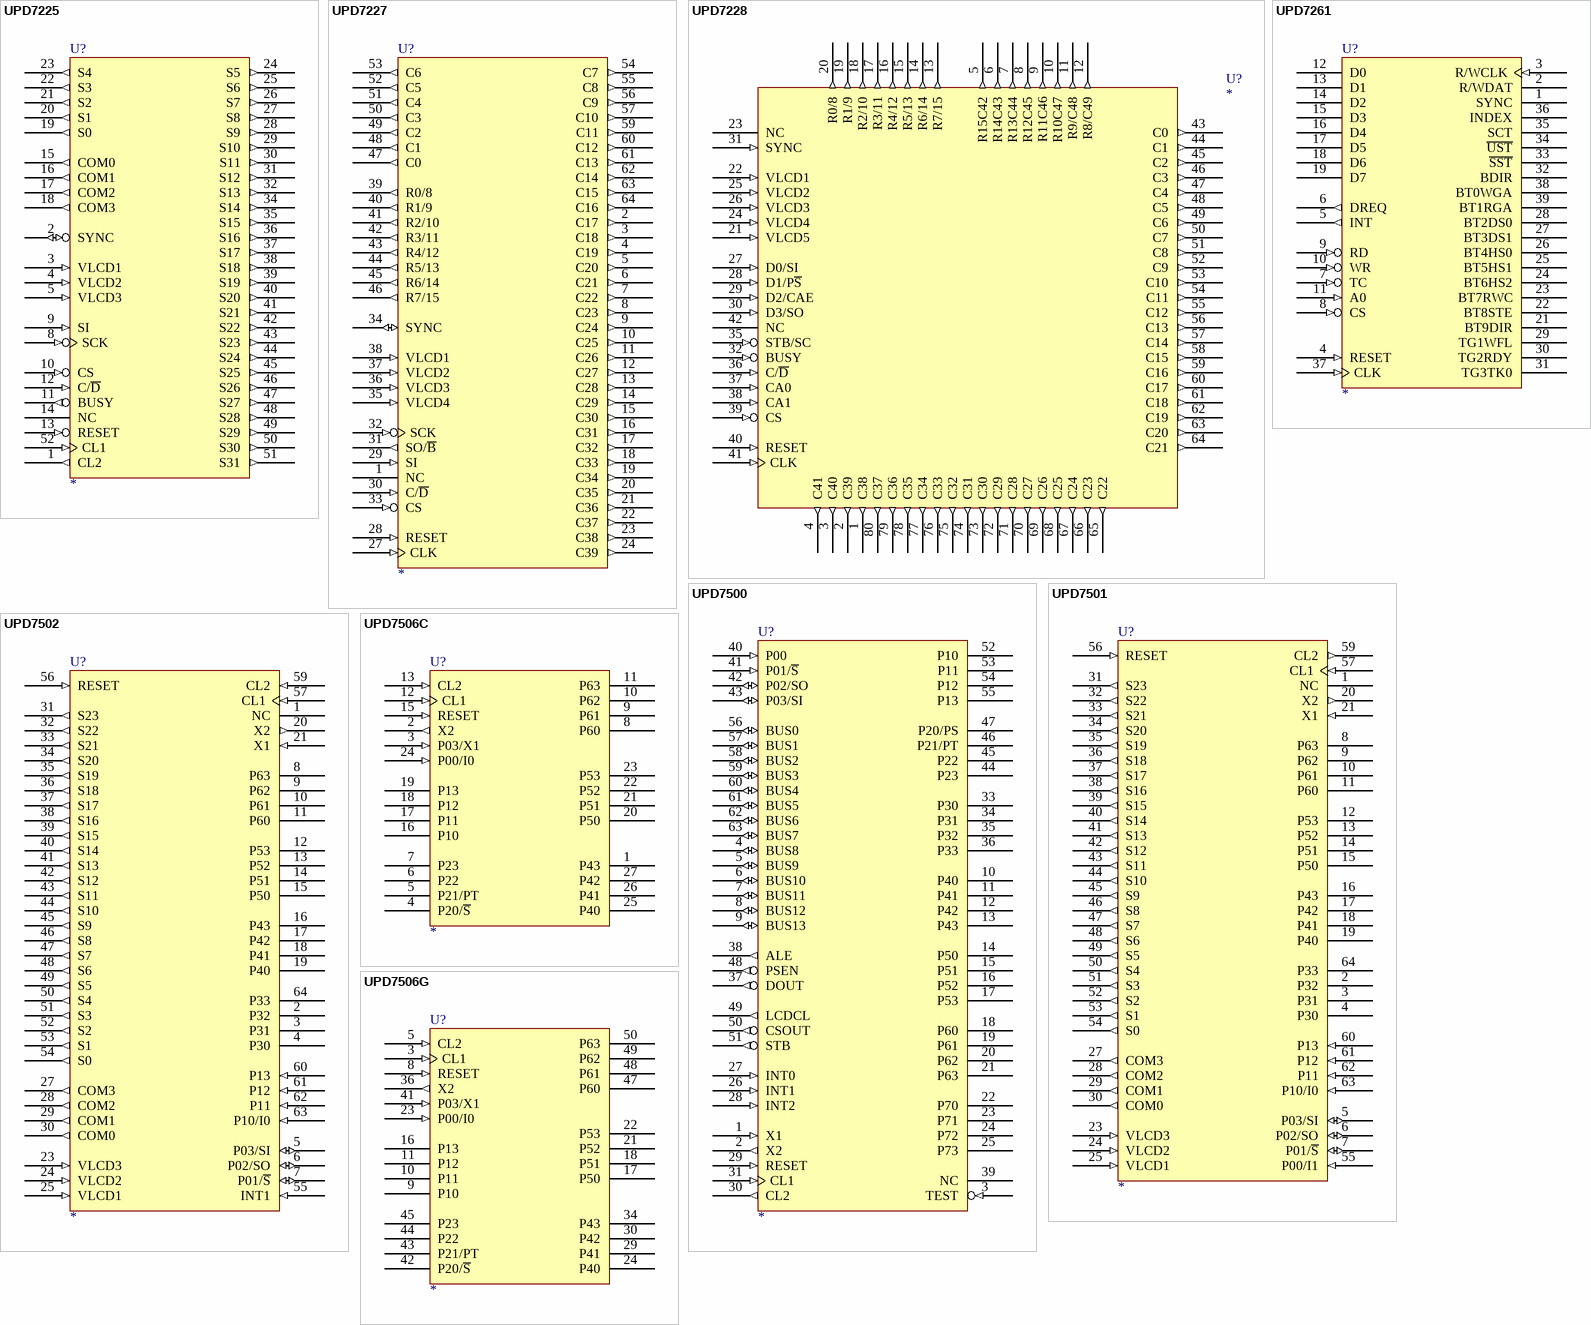
[diagram p61: symbols UPD7225 to UPD7506G]

## UPD7225
designator U?
footprint QFP-52
pins: 1 CL2 (out), 2 SYNC (io), 3 VLCD1 (in), 4 VLCD2 (in), 5 VLCD3 (in), 6 GND (power) hidden to GND, 7 VCC (power) hidden to VCC, 8 SCK (in), 9 SI (in), 10 CS (in), 11 BUSY (out), 12 C/~{D} (in), 13 RESET (in), 14 NC, 15 COM0 (out), 16 COM1 (out), 17 COM2 (out), 18 COM3 (out), 19 S0 (out), 20 S1 (out), 21 S2 (out), 22 S3 (out), 23 S4 (out), 24 S5 (out), 25 S6 (out), 26 S7 (out), 27 S8 (out), 28 S9 (out), 29 S10 (out), 30 S11 (out), 31 S12 (out), 32 S13 (out), 33 VCC (power) hidden to VCC, 34 S14 (out), 35 S15 (out), 36 S16 (out), 37 S17 (out), 38 S18 (out), 39 S19 (out), 40 S20 (out), 41 S21 (out), 42 S22 (out), 43 S23 (out), 44 S24 (out), 45 S25 (out), 46 S26 (out), 47 S27 (out), 48 S28 (out), 49 S29 (out), 50 S30 (out), 51 S31 (out), 52 CL1 (in)

## UPD7227
designator U?
footprint QFP-64
pins: 1 NC, 2 C17 (out), 3 C18 (out), 4 C19 (out), 5 C20 (out), 6 C21 (out), 7 C22 (out), 8 C23 (out), 9 C24 (out), 10 C25 (out), 11 C26 (out), 12 C27 (out), 13 C28 (out), 14 C29 (out), 15 C30 (out), 16 C31 (out), 17 C32 (out), 18 C33 (out), 19 C34 (out), 20 C35 (out), 21 C36 (out), 22 C37 (out), 23 C38 (out), 24 C39 (out), 25 GND (power) hidden to GND, 26 VCC (power) hidden to VCC, 27 CLK (in), 28 RESET (in), 29 SI (in), 30 C/~{D} (in), 31 SO/~{B} (out), 32 SCK (in), 33 CS (in), 34 SYNC (io), 35 VLCD4 (in), 36 VLCD3 (in), 37 VLCD2 (in), 38 VLCD1 (in), 39 R0/8 (out), 40 R1/9 (out), 41 R2/10 (out), 42 R3/11 (out), 43 R4/12 (out), 44 R5/13 (out), 45 R6/14 (out), 46 R7/15 (out), 47 C0 (out), 48 C1 (out), 49 C2 (out), 50 C3 (out), 51 C4 (out), 52 C5 (out), 53 C6 (out), 54 C7 (out), 55 C8 (out), 56 C9 (out), 57 C10 (out), 58 VCC (power) hidden to VCC, 59 C11 (out), 60 C12 (out), 61 C13 (out), 62 C14 (out), 63 C15 (out), 64 C16 (out)

## UPD7228
designator U?
footprint TQFP-80
pins: 1 C38 (out), 2 C39 (out), 3 C40 (out), 4 C41 (out), 5 R15C42 (out), 6 R14C43 (out), 7 R13C44 (out), 8 R12C45 (out), 9 R11C46 (out), 10 R10C47 (out), 11 R9/C48 (out), 12 R8/C49 (out), 13 R7/15 (out), 14 R6/14 (out), 15 R5/13 (out), 16 R4/12 (out), 17 R3/11 (out), 18 R2/10 (out), 19 R1/9 (out), 20 R0/8 (out), 21 VLCD5 (in), 22 VLCD1 (in), 23 NC, 24 VLCD4 (in), 25 VLCD2 (in), 26 VLCD3 (in), 27 D0/SI (in), 28 D1/P~{S} (in), 29 D2/CAE (in), 30 D3/SO (in), 31 SYNC (in), 32 BUSY (in), 33 VCC (power) hidden to VCC, 34 GND (power) hidden to GND, 35 STB/SC (in), 36 C/~{D} (in), 37 CA0 (in), 38 CA1 (in), 39 CS (in), 40 RESET (in), 41 CLK (in), 42 NC, 43 C0 (out), 44 C1 (out), 45 C2 (out), 46 C3 (out), 47 C4 (out), 48 C5 (out), 49 C6 (out), 50 C7 (out), 51 C8 (out), 52 C9 (out), 53 C10 (out), 54 C11 (out), 55 C12 (out), 56 C13 (out), 57 C14 (out), 58 C15 (out), 59 C16 (out), 60 C17 (out), 61 C18 (out), 62 C19 (out), 63 C20 (out), 64 C21 (out), 65 C22 (out), 66 C23 (out), 67 C24 (out), 68 C25 (out), 69 C26 (out), 70 C27 (out), 71 C28 (out), 72 C29 (out), 73 C30 (out), 74 C31 (out), 75 C32 (out), 76 C33 (out), 77 C34 (out), 78 C35 (out), 79 C36 (out), 80 C37 (out)

## UPD7261
designator U?
footprint DIP-40
pins: 1 SYNC (hiz), 2 R/WDAT (hiz), 3 R/WCLK (in), 4 RESET (in), 5 INT (out), 6 DREQ (out), 7 TC (in), 8 CS (in), 9 RD (in), 10 WR (in), 11 A0 (in), 12 D0 (hiz), 13 D1 (hiz), 14 D2 (hiz), 15 D3 (hiz), 16 D4 (hiz), 17 D5 (hiz), 18 D6 (hiz), 19 D7 (hiz), 20 GND (power) hidden to GND, 21 BT9DIR (hiz), 22 BT8STE (hiz), 23 BT7RWC (hiz), 24 BT6HS2 (hiz), 25 BT5HS1 (hiz), 26 BT4HS0 (hiz), 27 BT3DS1 (hiz), 28 BT2DS0 (hiz), 29 TG1WFL (hiz), 30 TG2RDY (hiz), 31 TG3TK0 (hiz), 32 BDIR (hiz), 33 ~{SST} (hiz), 34 ~{UST} (hiz), 35 SCT (hiz), 36 INDEX (hiz), 37 CLK (in), 38 BT0WGA (hiz), 39 BT1RGA (hiz), 40 VCC (power) hidden to VCC

## UPD7500
designator U?
footprint QUIL64
pins: 1 X1 (in), 2 X2 (out), 3 TEST (in), 4 BUS8 (io), 5 BUS9 (io), 6 BUS10 (io), 7 BUS11 (io), 8 BUS12 (io), 9 BUS13 (io), 10 P40 (hiz), 11 P41 (hiz), 12 P42 (hiz), 13 P43 (hiz), 14 P50 (hiz), 15 P51 (hiz), 16 P52 (hiz), 17 P53 (hiz), 18 P60 (hiz), 19 P61 (hiz), 20 P62 (hiz), 21 P63 (hiz), 22 P70 (hiz), 23 P71 (hiz), 24 P72 (hiz), 25 P73 (hiz), 26 INT1 (in), 27 INT0 (in), 28 INT2 (in), 29 RESET (in), 30 CL2 (out), 31 CL1 (in), 32 VCC (power) hidden to VCC, 33 P30 (hiz), 34 P31 (hiz), 35 P32 (hiz), 36 P33 (hiz), 37 DOUT (out), 38 ALE (out), 39 NC, 40 P00 (in), 41 P01/~{S} (in), 42 P02/SO (io), 43 P03/SI (io), 44 P23 (hiz), 45 P22 (hiz), 46 P21/PT (hiz), 47 P20/PS (hiz), 48 PSEN (out), 49 LCDCL (out), 50 CSOUT (out), 51 STB (out), 52 P10 (hiz), 53 P11 (hiz), 54 P12 (hiz), 55 P13 (hiz), 56 BUS0 (io), 57 BUS1 (io), 58 BUS2 (io), 59 BUS3 (io), 60 BUS4 (io), 61 BUS5 (io), 62 BUS6 (io), 63 BUS7 (io), 64 GND (power) hidden to GND

## UPD7501
designator U?
footprint QFP-64
pins: 1 NC, 2 P32 (hiz), 3 P31 (hiz), 4 P30 (hiz), 5 P03/SI (io), 6 P02/SO (io), 7 P01/~{S} (io), 8 P63 (hiz), 9 P62 (hiz), 10 P61 (hiz), 11 P60 (hiz), 12 P53 (hiz), 13 P52 (hiz), 14 P51 (hiz), 15 P50 (hiz), 16 P43 (hiz), 17 P42 (hiz), 18 P41 (hiz), 19 P40 (hiz), 20 X2 (out), 21 X1 (in), 22 GND (power) hidden to GND, 23 VLCD3 (in), 24 VLCD2 (in), 25 VLCD1 (in), 26 VCC (power) hidden to VCC, 27 COM3 (out), 28 COM2 (out), 29 COM1 (out), 30 COM0 (out), 31 S23 (out), 32 S22 (out), 33 S21 (out), 34 S20 (out), 35 S19 (out), 36 S18 (out), 37 S17 (out), 38 S16 (out), 39 S15 (out), 40 S14 (out), 41 S13 (out), 42 S12 (out), 43 S11 (out), 44 S10 (out), 45 S9 (out), 46 S8 (out), 47 S7 (out), 48 S6 (out), 49 S5 (out), 50 S4 (out), 51 S3 (out), 52 S2 (out), 53 S1 (out), 54 S0 (out), 55 P00/I1 (in), 56 RESET (in), 57 CL1 (in), 58 VCC (power) hidden to VCC, 59 CL2 (out), 60 P13 (in), 61 P12 (in), 62 P11 (in), 63 P10/I0 (in), 64 P33 (hiz)

## UPD7502
designator U?
footprint QFP-64
pins: 1 NC, 2 P32 (hiz), 3 P31 (hiz), 4 P30 (hiz), 5 P03/SI (io), 6 P02/SO (io), 7 P01/~{S} (io), 8 P63 (hiz), 9 P62 (hiz), 10 P61 (hiz), 11 P60 (hiz), 12 P53 (hiz), 13 P52 (hiz), 14 P51 (hiz), 15 P50 (hiz), 16 P43 (hiz), 17 P42 (hiz), 18 P41 (hiz), 19 P40 (hiz), 20 X2 (out), 21 X1 (in), 22 GND (power) hidden to GND, 23 VLCD3 (in), 24 VLCD2 (in), 25 VLCD1 (in), 26 VCC (power) hidden to VCC, 27 COM3 (out), 28 COM2 (out), 29 COM1 (out), 30 COM0 (out), 31 S23 (out), 32 S22 (out), 33 S21 (out), 34 S20 (out), 35 S19 (out), 36 S18 (out), 37 S17 (out), 38 S16 (out), 39 S15 (out), 40 S14 (out), 41 S13 (out), 42 S12 (out), 43 S11 (out), 44 S10 (out), 45 S9 (out), 46 S8 (out), 47 S7 (out), 48 S6 (out), 49 S5 (out), 50 S4 (out), 51 S3 (out), 52 S2 (out), 53 S1 (out), 54 S0 (out), 55 INT1 (in), 56 RESET (in), 57 CL1 (in), 58 VCC (power) hidden to VCC, 59 CL2 (in), 60 P13 (in), 61 P12 (in), 62 P11 (in), 63 P10/I0 (in), 64 P33 (hiz)

## UPD7506C
designator U?
footprint DIP-28
pins: 1 P43 (hiz), 2 X2 (out), 3 P03/X1 (in), 4 P20/~{S} (hiz), 5 P21/PT (hiz), 6 P22 (hiz), 7 P23 (hiz), 8 P60 (hiz), 9 P61 (hiz), 10 P62 (hiz), 11 P63 (hiz), 12 CL1 (in), 13 CL2 (in), 14 VCC (power) hidden to VCC, 15 RESET (in), 16 P10 (hiz), 17 P11 (hiz), 18 P12 (hiz), 19 P13 (hiz), 20 P50 (hiz), 21 P51 (hiz), 22 P52 (hiz), 23 P53 (hiz), 24 P00/I0 (in), 25 P40 (hiz), 26 P41 (hiz), 27 P42 (hiz), 28 GND (power) hidden to GND

## UPD7506G
designator U?
footprint QFP-52
pins: 3 CL1 (in), 5 CL2 (in), 7 VCC (power) hidden to VCC, 8 RESET (in), 9 P10 (hiz), 10 P11 (hiz), 11 P12 (hiz), 16 P13 (hiz), 17 P50 (hiz), 18 P51 (hiz), 21 P52 (hiz), 22 P53 (hiz), 23 P00/I0 (in), 24 P40 (hiz), 29 P41 (hiz), 30 P42 (hiz), 31 GND (power) hidden to GND, 33 VCC (power) hidden to VCC, 34 P43 (hiz), 36 X2 (out), 41 P03/X1 (in), 42 P20/~{S} (hiz), 43 P21/PT (hiz), 44 P22 (hiz), 45 P23 (hiz), 47 P60 (hiz), 48 P61 (hiz), 49 P62 (hiz), 50 P63 (hiz)

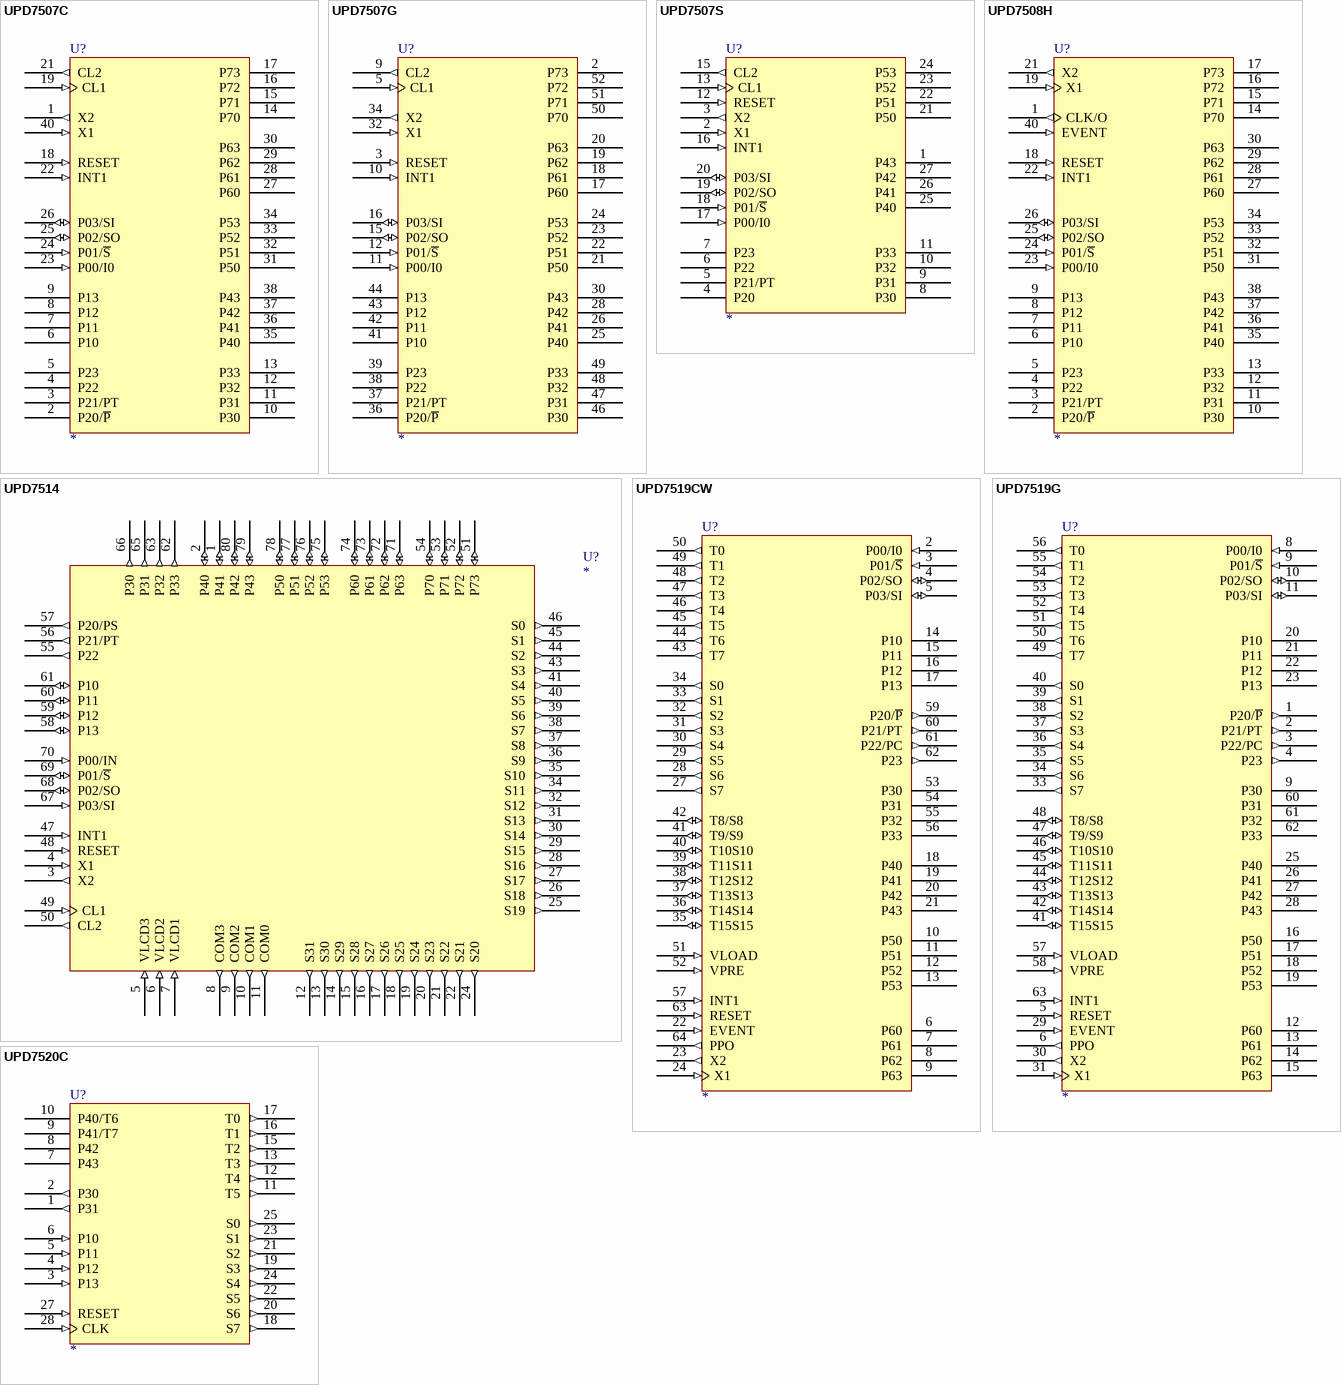
[diagram p62: symbols UPD7507C to UPD7520C]

## UPD7507C
designator U?
footprint DIP-40
pins: 1 X2 (out), 2 P20/~{P} (hiz), 3 P21/PT (hiz), 4 P22 (hiz), 5 P23 (hiz), 6 P10 (hiz), 7 P11 (hiz), 8 P12 (hiz), 9 P13 (hiz), 10 P30 (hiz), 11 P31 (hiz), 12 P32 (hiz), 13 P33 (hiz), 14 P70 (hiz), 15 P71 (hiz), 16 P72 (hiz), 17 P73 (hiz), 18 RESET (in), 19 CL1 (in), 20 VCC (power) hidden to VCC, 21 CL2 (out), 22 INT1 (in), 23 P00/I0 (in), 24 P01/~{S} (in), 25 P02/SO (io), 26 P03/SI (io), 27 P60 (hiz), 28 P61 (hiz), 29 P62 (hiz), 30 P63 (hiz), 31 P50 (hiz), 32 P51 (hiz), 33 P52 (hiz), 34 P53 (hiz), 35 P40 (hiz), 36 P41 (hiz), 37 P42 (hiz), 38 P43 (hiz), 39 GND (power) hidden to GND, 40 X1 (in)

## UPD7507G
designator U?
footprint QFP-52
pins: 2 P73 (hiz), 3 RESET (in), 5 CL1 (in), 7 VCC (power) hidden to VCC, 9 CL2 (out), 10 INT1 (in), 11 P00/I0 (in), 12 P01/~{S} (in), 15 P02/SO (io), 16 P03/SI (io), 17 P60 (hiz), 18 P61 (hiz), 19 P62 (hiz), 20 P63 (hiz), 21 P50 (hiz), 22 P51 (hiz), 23 P52 (hiz), 24 P53 (hiz), 25 P40 (hiz), 26 P41 (hiz), 28 P42 (hiz), 30 P43 (hiz), 31 GND (power) hidden to GND, 32 X1 (in), 33 VCC (power) hidden to VCC, 34 X2 (out), 36 P20/~{P} (hiz), 37 P21/PT (hiz), 38 P22 (hiz), 39 P23 (hiz), 41 P10 (hiz), 42 P11 (hiz), 43 P12 (hiz), 44 P13 (hiz), 46 P30 (hiz), 47 P31 (hiz), 48 P32 (hiz), 49 P33 (hiz), 50 P70 (hiz), 51 P71 (hiz), 52 P72 (hiz)

## UPD7507S
designator U?
footprint DIP-28
pins: 1 P43 (hiz), 2 X1 (in), 3 X2 (out), 4 P20 (hiz), 5 P21/PT (hiz), 6 P22 (hiz), 7 P23 (hiz), 8 P30 (hiz), 9 P31 (hiz), 10 P32 (hiz), 11 P33 (hiz), 12 RESET (in), 13 CL1 (in), 14 VCC (power) hidden to VCC, 15 CL2 (out), 16 INT1 (in), 17 P00/I0 (in), 18 P01/~{S} (in), 19 P02/SO (io), 20 P03/SI (io), 21 P50 (hiz), 22 P51 (hiz), 23 P52 (hiz), 24 P53 (hiz), 25 P40 (hiz), 26 P41 (hiz), 27 P42 (hiz), 28 GND (power) hidden to GND

## UPD7508H
designator U?
footprint DIP-40
pins: 1 CLK/O (out), 2 P20/~{P} (hiz), 3 P21/PT (hiz), 4 P22 (hiz), 5 P23 (hiz), 6 P10 (hiz), 7 P11 (hiz), 8 P12 (hiz), 9 P13 (hiz), 10 P30 (hiz), 11 P31 (hiz), 12 P32 (hiz), 13 P33 (hiz), 14 P70 (hiz), 15 P71 (hiz), 16 P72 (hiz), 17 P73 (hiz), 18 RESET (in), 19 X1 (in), 20 VCC (power) hidden to VCC, 21 X2 (out), 22 INT1 (in), 23 P00/I0 (in), 24 P01/~{S} (in), 25 P02/SO (io), 26 P03/SI (io), 27 P60 (hiz), 28 P61 (hiz), 29 P62 (hiz), 30 P63 (hiz), 31 P50 (hiz), 32 P51 (hiz), 33 P52 (hiz), 34 P53 (hiz), 35 P40 (hiz), 36 P41 (hiz), 37 P42 (hiz), 38 P43 (hiz), 39 VCC (power) hidden to VCC, 40 EVENT (in)

## UPD7514
designator U?
footprint TQFP-80
pins: 1 P41 (io), 2 P40 (io), 3 X2 (out), 4 X1 (in), 5 VLCD3 (in), 6 VLCD2 (in), 7 VLCD1 (in), 8 COM3 (out), 9 COM2 (out), 10 COM1 (out), 11 COM0 (out), 12 S31 (out), 13 S30 (out), 14 S29 (out), 15 S28 (out), 16 S27 (out), 17 S26 (out), 18 S25 (out), 19 S24 (out), 20 S23 (out), 21 S22 (out), 22 S21 (out), 24 S20 (out), 25 S19 (out), 26 S18 (out), 27 S17 (out), 28 S16 (out), 29 S15 (out), 30 S14 (out), 31 S13 (out), 32 S12 (out), 33 VCC (power) hidden to VCC, 34 S11 (out), 35 S10 (out), 36 S9 (out), 37 S8 (out), 38 S7 (out), 39 S6 (out), 40 S5 (out), 41 S4 (out), 43 S3 (out), 44 S2 (out), 45 S1 (out), 46 S0 (out), 47 INT1 (in), 48 RESET (in), 49 CL1 (in), 50 CL2 (out), 51 P73 (io), 52 P72 (io), 53 P71 (io), 54 P70 (io), 55 P22 (out), 56 P21/PT (out), 57 P20/PS (out), 58 P13 (io), 59 P12 (io), 60 P11 (io), 61 P10 (io), 62 P33 (out), 63 P32 (out), 64 GND (power) hidden to GND, 65 P31 (out), 66 P30 (out), 67 P03/SI (in), 68 P02/SO (io), 69 P01/~{S} (io), 70 P00/IN (in), 71 P63 (io), 72 P62 (io), 73 P61 (io), 74 P60 (io), 75 P53 (io), 76 P52 (io), 77 P51 (io), 78 P50 (io), 79 P43 (io), 80 P42 (io)

## UPD7519CW
designator U?
footprint QFP-64
pins: 2 P00/I0 (in), 3 P01/~{S} (in), 4 P02/SO (io), 5 P03/SI (io), 6 P60 (hiz), 7 P61 (hiz), 8 P62 (hiz), 9 P63 (hiz), 10 P50 (hiz), 11 P51 (hiz), 12 P52 (hiz), 13 P53 (hiz), 14 P10 (hiz), 15 P11 (hiz), 16 P12 (hiz), 17 P13 (hiz), 18 P40 (hiz), 19 P41 (hiz), 20 P42 (hiz), 21 P43 (hiz), 22 EVENT (in), 23 X2 (out), 24 X1 (in), 25 GND (power) hidden to GND, 26 VCC (power) hidden to VCC, 27 S7 (out), 28 S6 (out), 29 S5 (out), 30 S4 (out), 31 S3 (out), 32 S2 (out), 33 S1 (out), 34 S0 (out), 35 T15S15 (io), 36 T14S14 (io), 37 T13S13 (io), 38 T12S12 (io), 39 T11S11 (io), 40 T10S10 (io), 41 T9/S9 (io), 42 T8/S8 (io), 43 T7 (out), 44 T6 (out), 45 T5 (out), 46 T4 (out), 47 T3 (out), 48 T2 (out), 49 T1 (out), 50 T0 (out), 51 VLOAD (in), 52 VPRE (in), 53 P30 (hiz), 54 P31 (hiz), 55 P32 (hiz), 56 P33 (hiz), 57 INT1 (in), 58 VCC (power) hidden to VCC, 59 P20/~{P} (out), 60 P21/PT (out), 61 P22/PC (out), 62 P23 (out), 63 RESET (in), 64 PPO (out)

## UPD7519G
designator U?
footprint QUIL64
pins: 1 P20/~{P} (out), 2 P21/PT (out), 3 P22/PC (out), 4 P23 (out), 5 RESET (in), 6 PPO (out), 8 P00/I0 (in), 9 P01/~{S} (in), 9 P30 (hiz), 10 P02/SO (io), 11 P03/SI (io), 12 P60 (hiz), 13 P61 (hiz), 14 P62 (hiz), 15 P63 (hiz), 16 P50 (hiz), 17 P51 (hiz), 18 P52 (hiz), 19 P53 (hiz), 20 P10 (hiz), 21 P11 (hiz), 22 P12 (hiz), 23 P13 (hiz), 25 P40 (hiz), 26 P41 (hiz), 27 P42 (hiz), 28 P43 (hiz), 29 EVENT (in), 30 X2 (out), 31 X1 (in), 32 GND (power) hidden to GND, 33 S7 (out), 34 S6 (out), 35 S5 (out), 36 S4 (out), 37 S3 (out), 38 S2 (out), 39 S1 (out), 40 S0 (out), 41 T15S15 (io), 42 T14S14 (io), 43 T13S13 (io), 44 T12S12 (io), 45 T11S11 (io), 46 T10S10 (io), 47 T9/S9 (io), 48 T8/S8 (io), 49 T7 (out), 50 T6 (out), 51 T5 (out), 52 T4 (out), 53 T3 (out), 54 T2 (out), 55 T1 (out), 56 T0 (out), 57 VLOAD (in), 58 VPRE (in), 60 P31 (hiz), 61 P32 (hiz), 62 P33 (hiz), 63 INT1 (in), 64 VCC (power) hidden to VCC

## UPD7520C
designator U?
footprint DIP-28
pins: 1 P31 (out), 2 P30 (out), 3 P13 (in), 4 P12 (in), 5 P11 (in), 6 P10 (in), 7 P43 (hiz), 8 P42 (hiz), 9 P41/T7 (hiz), 10 P40/T6 (hiz), 11 T5 (out), 12 T4 (out), 13 T3 (out), 14 VCC (power) hidden to VCC, 15 T2 (out), 16 T1 (out), 17 T0 (out), 18 S7 (out), 19 S3 (out), 20 S6 (out), 21 S2 (out), 22 S5 (out), 23 S1 (out), 24 S4 (out), 25 S0 (out), 26 GND (power) hidden to GND, 27 RESET (in), 28 CLK (in)

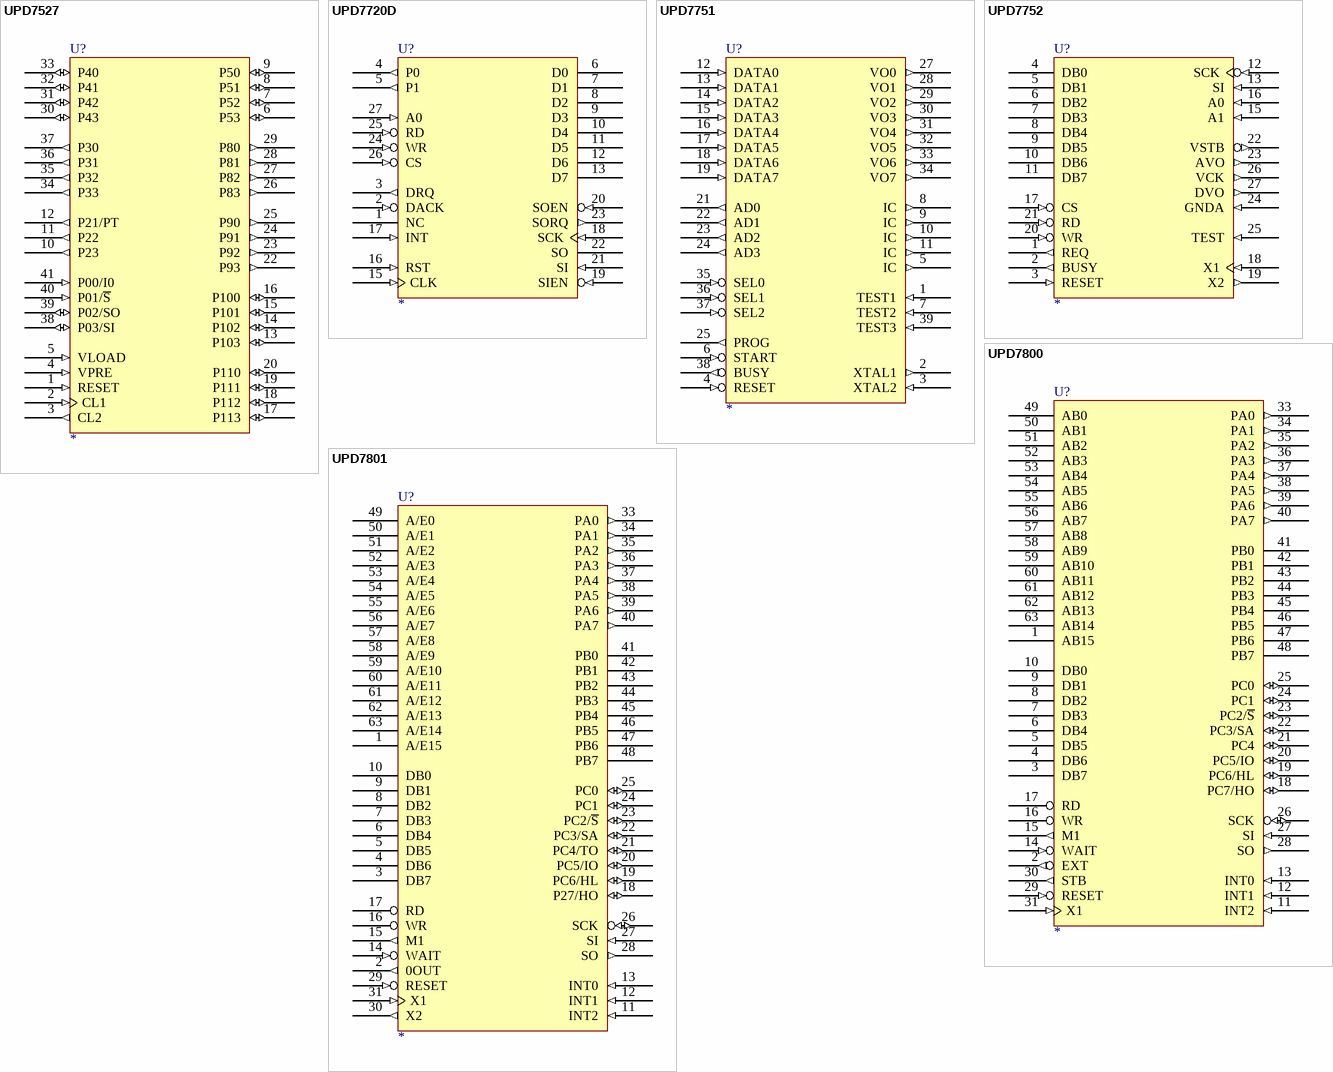
[diagram p63: symbols UPD7527 to UPD7801]

## UPD7527
designator U?
footprint DIP42
pins: 1 RESET (in), 2 CL1 (in), 3 CL2 (out), 4 VPRE (in), 5 VLOAD (in), 6 P53 (io), 7 P52 (io), 8 P51 (io), 9 P50 (io), 10 P23 (out), 11 P22 (out), 12 P21/PT (out), 13 P103 (io), 14 P102 (io), 15 P101 (io), 16 P100 (io), 17 P113 (io), 18 P112 (io), 19 P111 (io), 20 P110 (io), 21 VCC (power) hidden to VCC, 22 P93 (out), 23 P92 (out), 24 P91 (out), 25 P90 (out), 26 P83 (out), 27 P82 (out), 28 P81 (out), 29 P80 (out), 30 P43 (io), 31 P42 (io), 32 P41 (io), 33 P40 (io), 34 P33 (out), 35 P32 (out), 36 P31 (out), 37 P30 (out), 38 P03/SI (io), 39 P02/SO (io), 40 P01/~{S} (in), 41 P00/I0 (in), 42 GND (power) hidden to GND

## UPD7720D
designator U?
footprint DIP-40
pins: 1 NC, 2 DACK (in), 3 DRQ (out), 4 P0 (out), 5 P1 (out), 6 D0 (hiz), 7 D1 (hiz), 8 D2 (hiz), 9 D3 (hiz), 10 D4 (hiz), 11 D5 (hiz), 12 D6 (hiz), 13 D7 (hiz), 14 GND (power) hidden to GND, 15 CLK (in), 16 RST (in), 17 INT (in), 18 SCK (in), 19 SIEN (in), 20 SOEN (in), 21 SI (in), 22 SO (hiz), 23 SORQ (out), 24 WR (in), 25 RD (in), 26 CS (in), 27 A0 (in), 28 VCC (power) hidden to VCC

## UPD7751
designator U?
footprint DIP-40
pins: 1 TEST1 (in), 2 XTAL1 (out), 3 XTAL2 (in), 4 RESET (in), 5 IC (out), 6 START (in), 7 TEST2 (in), 8 IC (out), 9 IC (out), 10 IC (out), 11 IC (out), 12 DATA0 (in), 13 DATA1 (in), 14 DATA2 (in), 15 DATA3 (in), 16 DATA4 (in), 17 DATA5 (in), 18 DATA6 (in), 19 DATA7 (in), 20 GND (power) hidden to GND, 21 AD0 (out), 22 AD1 (out), 23 AD2 (out), 24 AD3 (out), 25 PROG (out), 26 VCC (power) hidden to VCC, 27 VO0 (out), 28 VO1 (out), 29 VO2 (out), 30 VO3 (out), 31 VO4 (out), 32 VO5 (out), 33 VO6 (out), 34 VO7 (out), 35 SEL0 (in), 36 SEL1 (in), 37 SEL2 (in), 38 BUSY (out), 39 TEST3 (in), 40 VCC (power) hidden to VCC

## UPD7752
designator U?
footprint DIP-28
pins: 1 REQ (out), 2 BUSY (out), 3 RESET (in), 4 DB0 (hiz), 5 DB1 (hiz), 6 DB2 (hiz), 7 DB3 (hiz), 8 DB4 (hiz), 9 DB5 (hiz), 10 DB6 (hiz), 11 DB7 (hiz), 12 SCK (in), 13 SI (in), 14 GND (power) hidden to GND, 15 A1 (in), 16 A0 (in), 17 CS (in), 18 X1 (in), 19 X2 (out), 20 WR (in), 21 RD (in), 22 VSTB (out), 23 AVO (out), 24 GNDA (in), 25 TEST (in), 26 VCK (out), 27 DVO (out), 28 VCC (power) hidden to VCC

## UPD7800
designator U?
footprint QUIL64
pins: 1 AB15 (hiz), 2 EXT (out), 3 DB7 (hiz), 4 DB6 (hiz), 5 DB5 (hiz), 6 DB4 (hiz), 7 DB3 (hiz), 8 DB2 (hiz), 9 DB1 (hiz), 10 DB0 (hiz), 11 INT2 (in), 12 INT1 (in), 13 INT0 (in), 14 WAIT (in), 15 M1 (out), 16 WR (hiz), 17 RD (hiz), 18 PC7/HO (io), 19 PC6/HL (io), 20 PC5/IO (io), 21 PC4 (io), 22 PC3/SA (io), 23 PC2/~{S} (io), 24 PC1 (io), 25 PC0 (io), 26 SCK (io), 27 SI (in), 28 SO (out), 29 RESET (in), 30 STB (out), 31 X1 (in), 32 GND (power) hidden to GND, 33 PA0 (out), 34 PA1 (out), 35 PA2 (out), 36 PA3 (out), 37 PA4 (out), 38 PA5 (out), 39 PA6 (out), 40 PA7 (out), 41 PB0 (hiz), 42 PB1 (hiz), 43 PB2 (hiz), 44 PB3 (hiz), 45 PB4 (hiz), 46 PB5 (hiz), 47 PB6 (hiz), 48 PB7 (hiz), 49 AB0 (hiz), 50 AB1 (hiz), 51 AB2 (hiz), 52 AB3 (hiz), 53 AB4 (hiz), 54 AB5 (hiz), 55 AB6 (hiz), 56 AB7 (hiz), 57 AB8 (hiz), 58 AB9 (hiz), 59 AB10 (hiz), 60 AB11 (hiz), 61 AB12 (hiz), 62 AB13 (hiz), 63 AB14 (hiz), 64 VCC (power) hidden to VCC

## UPD7801
designator U?
footprint QUIL64
pins: 1 A/E15 (hiz), 2 0OUT (out), 3 DB7 (hiz), 4 DB6 (hiz), 5 DB5 (hiz), 6 DB4 (hiz), 7 DB3 (hiz), 8 DB2 (hiz), 9 DB1 (hiz), 10 DB0 (hiz), 11 INT2 (in), 12 INT1 (in), 13 INT0 (in), 14 WAIT (in), 15 M1 (out), 16 WR (hiz), 17 RD (hiz), 18 P27/HO (io), 19 PC6/HL (io), 20 PC5/IO (io), 21 PC4/TO (io), 22 PC3/SA (io), 23 PC2/~{S} (io), 24 PC1 (io), 25 PC0 (io), 26 SCK (io), 27 SI (in), 28 SO (out), 29 RESET (in), 30 X2 (out), 31 X1 (in), 32 GND (power) hidden to GND, 33 PA0 (out), 34 PA1 (out), 35 PA2 (out), 36 PA3 (out), 37 PA4 (out), 38 PA5 (out), 39 PA6 (out), 40 PA7 (out), 41 PB0 (hiz), 42 PB1 (hiz), 43 PB2 (hiz), 44 PB3 (hiz), 45 PB4 (hiz), 46 PB5 (hiz), 47 PB6 (hiz), 48 PB7 (hiz), 49 A/E0 (hiz), 50 A/E1 (hiz), 51 A/E2 (hiz), 52 A/E3 (hiz), 53 A/E4 (hiz), 54 A/E5 (hiz), 55 A/E6 (hiz), 56 A/E7 (hiz), 57 A/E8 (hiz), 58 A/E9 (hiz), 59 A/E10 (hiz), 60 A/E11 (hiz), 61 A/E12 (hiz), 62 A/E13 (hiz), 63 A/E14 (hiz), 64 VCC (power) hidden to VCC

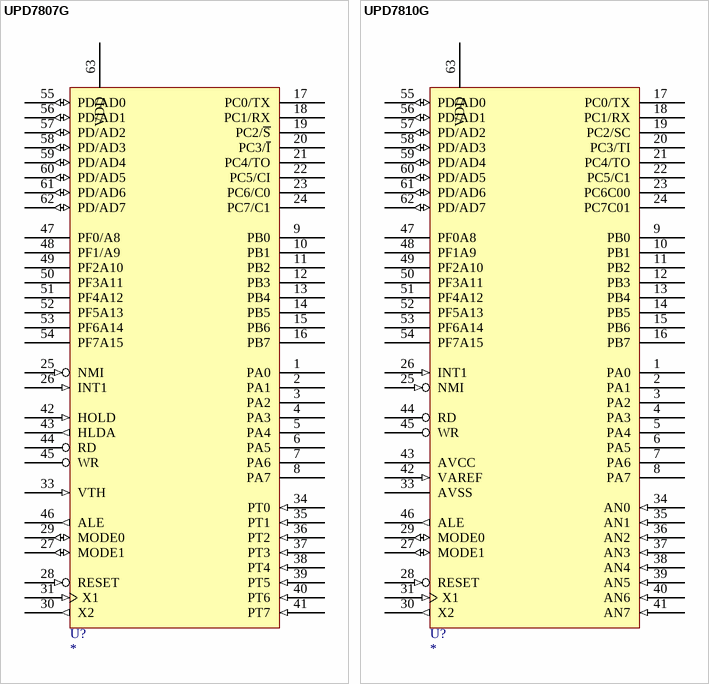
[diagram p64: symbols UPD7807G to UPD7810G]

## UPD7807G
designator U?
footprint QUIL64
pins: 1 PA0 (hiz), 2 PA1 (hiz), 3 PA2 (hiz), 4 PA3 (hiz), 5 PA4 (hiz), 6 PA5 (hiz), 7 PA6 (hiz), 8 PA7 (hiz), 9 PB0 (hiz), 10 PB1 (hiz), 11 PB2 (hiz), 12 PB3 (hiz), 13 PB4 (hiz), 14 PB5 (hiz), 15 PB6 (hiz), 16 PB7 (hiz), 17 PC0/TX (hiz), 18 PC1/RX (hiz), 19 PC2/~{S} (hiz), 20 PC3/~{I} (hiz), 21 PC4/TO (hiz), 22 PC5/CI (hiz), 23 PC6/C0 (hiz), 24 PC7/C1 (hiz), 25 NMI (in), 26 INT1 (in), 27 MODE1 (io), 28 RESET (in), 29 MODE0 (io), 30 X2 (out), 31 X1 (in), 32 GND (power) hidden to GND, 33 VTH (in), 34 PT0 (in), 35 PT1 (in), 36 PT2 (in), 37 PT3 (in), 38 PT4 (in), 39 PT5 (in), 40 PT6 (in), 41 PT7 (in), 42 HOLD (in), 43 HLDA (out), 44 RD (hiz), 45 WR (hiz), 46 ALE (out), 47 PF0/A8 (hiz), 48 PF1/A9 (hiz), 49 PF2A10 (hiz), 50 PF3A11 (hiz), 51 PF4A12 (hiz), 52 PF5A13 (hiz), 53 PF6A14 (hiz), 54 PF7A15 (hiz), 55 PD/AD0 (io), 56 PD/AD1 (io), 57 PD/AD2 (io), 58 PD/AD3 (io), 59 PD/AD4 (io), 60 PD/AD5 (io), 61 PD/AD6 (io), 62 PD/AD7 (io), 63 VDD (power), 64 VCC (power) hidden to VCC

## UPD7810G
designator U?
footprint QUIL64
pins: 1 PA0 (hiz), 2 PA1 (hiz), 3 PA2 (hiz), 4 PA3 (hiz), 5 PA4 (hiz), 6 PA5 (hiz), 7 PA6 (hiz), 8 PA7 (hiz), 9 PB0 (hiz), 10 PB1 (hiz), 11 PB2 (hiz), 12 PB3 (hiz), 13 PB4 (hiz), 14 PB5 (hiz), 15 PB6 (hiz), 16 PB7 (hiz), 17 PC0/TX (hiz), 18 PC1/RX (hiz), 19 PC2/SC (hiz), 20 PC3/TI (hiz), 21 PC4/TO (hiz), 22 PC5/C1 (hiz), 23 PC6C00 (hiz), 24 PC7C01 (hiz), 25 NMI (in), 26 INT1 (in), 27 MODE1 (io), 28 RESET (in), 29 MODE0 (io), 30 X2 (out), 31 X1 (in), 32 GND (power) hidden to GND, 33 AVSS (power), 34 AN0 (in), 35 AN1 (in), 36 AN2 (in), 37 AN3 (in), 38 AN4 (in), 39 AN5 (in), 40 AN6 (in), 41 AN7 (in), 42 VAREF (in), 43 AVCC (power), 44 RD (hiz), 45 WR (hiz), 46 ALE (out), 47 PF0A8 (hiz), 48 PF1A9 (hiz), 49 PF2A10 (hiz), 50 PF3A11 (hiz), 51 PF4A12 (hiz), 52 PF5A13 (hiz), 53 PF6A14 (hiz), 54 PF7A15 (hiz), 55 PD/AD0 (io), 56 PD/AD1 (io), 57 PD/AD2 (io), 58 PD/AD3 (io), 59 PD/AD4 (io), 60 PD/AD5 (io), 61 PD/AD6 (io), 62 PD/AD7 (io), 63 VDD (power), 64 VCC (power) hidden to VCC


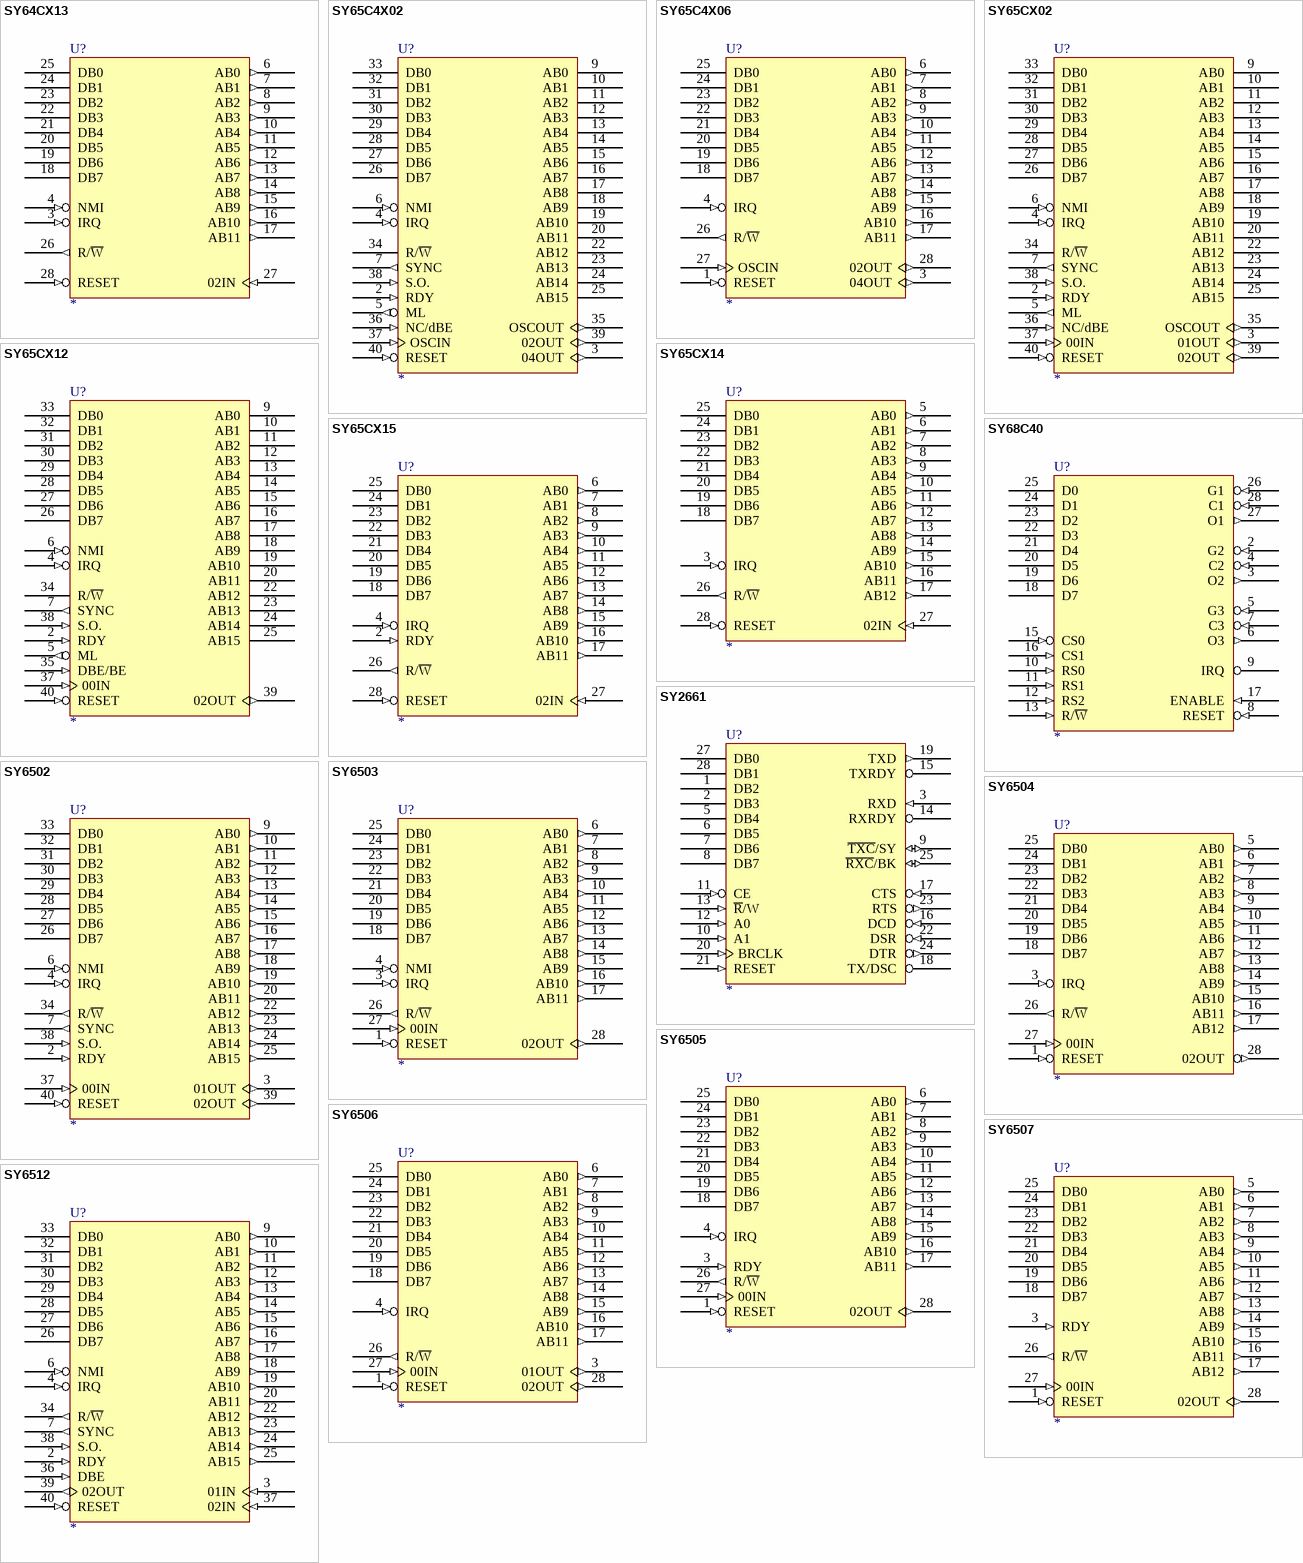
[diagram p65: symbols SY64CX13 to SY6512]

## SY64CX13
designator U?
footprint DIP-28
pins: 1 GND (power) hidden to GND, 3 IRQ (in), 4 NMI (in), 5 VCC (power) hidden to VCC, 6 AB0 (out), 7 AB1 (out), 8 AB2 (out), 9 AB3 (out), 10 AB4 (out), 11 AB5 (out), 12 AB6 (out), 13 AB7 (out), 14 AB8 (out), 15 AB9 (out), 16 AB10 (out), 17 AB11 (out), 18 DB7 (hiz), 19 DB6 (hiz), 20 DB5 (hiz), 21 DB4 (hiz), 22 DB3 (hiz), 23 DB2 (hiz), 24 DB1 (hiz), 25 DB0 (hiz), 26 R/~{W} (out), 27 02IN (in), 28 RESET (in)

## SY65C4X02
designator U?
footprint DIP-40
pins: 1 GND (power) hidden to GND, 2 RDY (in), 3 04OUT (out), 4 IRQ (in), 5 ML (out), 6 NMI (in), 7 SYNC (out), 8 VCC (power) hidden to VCC, 9 AB0 (hiz), 10 AB1 (hiz), 11 AB2 (hiz), 12 AB3 (hiz), 13 AB4 (hiz), 14 AB5 (hiz), 15 AB6 (hiz), 16 AB7 (hiz), 17 AB8 (hiz), 18 AB9 (hiz), 19 AB10 (hiz), 20 AB11 (hiz), 21 GND (power) hidden to GND, 22 AB12 (hiz), 23 AB13 (hiz), 24 AB14 (hiz), 25 AB15 (hiz), 26 DB7 (hiz), 27 DB6 (hiz), 28 DB5 (hiz), 29 DB4 (hiz), 30 DB3 (hiz), 31 DB2 (hiz), 32 DB1 (hiz), 33 DB0 (hiz), 34 R/~{W} (hiz), 35 OSCOUT (out), 36 NC/dBE (in), 37 OSCIN (in), 38 S.O. (in), 39 02OUT (out), 40 RESET (in)

## SY65C4X06
designator U?
footprint DIP-28
pins: 1 RESET (in), 2 GND (power) hidden to GND, 3 04OUT (out), 4 IRQ (in), 5 VCC (power) hidden to VCC, 6 AB0 (out), 7 AB1 (out), 8 AB2 (out), 9 AB3 (out), 10 AB4 (out), 11 AB5 (out), 12 AB6 (out), 13 AB7 (out), 14 AB8 (out), 15 AB9 (out), 16 AB10 (out), 17 AB11 (out), 18 DB7 (hiz), 19 DB6 (hiz), 20 DB5 (hiz), 21 DB4 (hiz), 22 DB3 (hiz), 23 DB2 (hiz), 24 DB1 (hiz), 25 DB0 (hiz), 26 R/~{W} (out), 27 OSCIN (in), 28 02OUT (out)

## SY65CX02
designator U?
footprint DIP-40
pins: 1 GND (power) hidden to GND, 2 RDY (in), 3 01OUT (out), 4 IRQ (in), 5 ML (out), 6 NMI (in), 7 SYNC (out), 8 VCC (power) hidden to VCC, 9 AB0 (hiz), 10 AB1 (hiz), 11 AB2 (hiz), 12 AB3 (hiz), 13 AB4 (hiz), 14 AB5 (hiz), 15 AB6 (hiz), 16 AB7 (hiz), 17 AB8 (hiz), 18 AB9 (hiz), 19 AB10 (hiz), 20 AB11 (hiz), 21 GND (power) hidden to GND, 22 AB12 (hiz), 23 AB13 (hiz), 24 AB14 (hiz), 25 AB15 (hiz), 26 DB7 (hiz), 27 DB6 (hiz), 28 DB5 (hiz), 29 DB4 (hiz), 30 DB3 (hiz), 31 DB2 (hiz), 32 DB1 (hiz), 33 DB0 (hiz), 34 R/~{W} (hiz), 35 OSCOUT (out), 36 NC/dBE (in), 37 00IN (in), 38 S.O. (in), 39 02OUT (out), 40 RESET (in)

## SY65CX12
designator U?
footprint DIP-40
pins: 1 GND (power) hidden to GND, 2 RDY (in), 4 IRQ (in), 5 ML (out), 6 NMI (in), 7 SYNC (out), 8 VCC (power) hidden to VCC, 9 AB0 (hiz), 10 AB1 (hiz), 11 AB2 (hiz), 12 AB3 (hiz), 13 AB4 (hiz), 14 AB5 (hiz), 15 AB6 (hiz), 16 AB7 (hiz), 17 AB8 (hiz), 18 AB9 (hiz), 19 AB10 (hiz), 20 AB11 (hiz), 21 GND (power) hidden to GND, 22 AB12 (hiz), 23 AB13 (hiz), 24 AB14 (hiz), 25 AB15 (hiz), 26 DB7 (hiz), 27 DB6 (hiz), 28 DB5 (hiz), 29 DB4 (hiz), 30 DB3 (hiz), 31 DB2 (hiz), 32 DB1 (hiz), 33 DB0 (hiz), 34 R/~{W} (hiz), 35 DBE/BE (in), 37 00IN (in), 38 S.O. (in), 39 02OUT (out), 40 RESET (in)

## SY65CX14
designator U?
footprint DIP-28
pins: 1 GND (power) hidden to GND, 3 IRQ (in), 4 VCC (power) hidden to VCC, 5 AB0 (out), 6 AB1 (out), 7 AB2 (out), 8 AB3 (out), 9 AB4 (out), 10 AB5 (out), 11 AB6 (out), 12 AB7 (out), 13 AB8 (out), 14 AB9 (out), 15 AB10 (out), 16 AB11 (out), 17 AB12 (out), 18 DB7 (hiz), 19 DB6 (hiz), 20 DB5 (hiz), 21 DB4 (hiz), 22 DB3 (hiz), 23 DB2 (hiz), 24 DB1 (hiz), 25 DB0 (hiz), 26 R/~{W} (out), 27 02IN (in), 28 RESET (in)

## SY65CX15
designator U?
footprint DIP-28
pins: 1 GND (power) hidden to GND, 2 RDY (in), 4 IRQ (in), 5 VCC (power) hidden to VCC, 6 AB0 (out), 7 AB1 (out), 8 AB2 (out), 9 AB3 (out), 10 AB4 (out), 11 AB5 (out), 12 AB6 (out), 13 AB7 (out), 14 AB8 (out), 15 AB9 (out), 16 AB10 (out), 17 AB11 (out), 18 DB7 (hiz), 19 DB6 (hiz), 20 DB5 (hiz), 21 DB4 (hiz), 22 DB3 (hiz), 23 DB2 (hiz), 24 DB1 (hiz), 25 DB0 (hiz), 26 R/~{W} (out), 27 02IN (in), 28 RESET (in)

## SY68C40
designator U?
footprint DIP-28
pins: 1 GND (power) hidden to GND, 2 G2 (in), 3 O2 (out), 4 C2 (in), 5 G3 (in), 6 O3 (out), 7 C3 (in), 8 RESET (in), 9 IRQ (oc), 10 RS0 (in), 11 RS1 (in), 12 RS2 (in), 13 R/~{W} (in), 14 VCC (power) hidden to VCC, 15 CS0 (in), 16 CS1 (in), 17 ENABLE (in), 18 D7 (hiz), 19 D6 (hiz), 20 D5 (hiz), 21 D4 (hiz), 22 D3 (hiz), 23 D2 (hiz), 24 D1 (hiz), 25 D0 (hiz), 26 G1 (in), 27 O1 (out), 28 C1 (in)

## SY2661
designator U?
footprint DIP-28
pins: 1 DB2 (hiz), 2 DB3 (hiz), 3 RXD (in), 4 GND (power) hidden to GND, 5 DB4 (hiz), 6 DB5 (hiz), 7 DB6 (hiz), 8 DB7 (hiz), 9 ~{TXC}/SY (io), 10 A1 (in), 11 CE (in), 12 A0 (in), 13 ~{R}/W (in), 14 RXRDY (oc), 15 TXRDY (oc), 16 DCD (in), 17 CTS (in), 18 TX/DSC (oc), 19 TXD (out), 20 BRCLK (in), 21 RESET (in), 22 DSR (in), 23 RTS (out), 24 DTR (out), 25 ~{RXC}/BK (io), 26 VCC (power) hidden to VCC, 27 DB0 (hiz), 28 DB1 (hiz)

## SY6502
designator U?
footprint DIP-40
pins: 1 GND (power) hidden to GND, 2 RDY (in), 3 01OUT (out), 4 IRQ (in), 6 NMI (in), 7 SYNC (out), 8 VCC (power) hidden to VCC, 9 AB0 (out), 10 AB1 (out), 11 AB2 (out), 12 AB3 (out), 13 AB4 (out), 14 AB5 (out), 15 AB6 (out), 16 AB7 (out), 17 AB8 (out), 18 AB9 (out), 19 AB10 (out), 20 AB11 (out), 21 GND (power) hidden to GND, 22 AB12 (out), 23 AB13 (out), 24 AB14 (out), 25 AB15 (out), 26 DB7 (hiz), 27 DB6 (hiz), 28 DB5 (hiz), 29 DB4 (hiz), 30 DB3 (hiz), 31 DB2 (hiz), 32 DB1 (hiz), 33 DB0 (hiz), 34 R/~{W} (out), 37 00IN (in), 38 S.O. (in), 39 02OUT (out), 40 RESET (in)

## SY6503
designator U?
footprint DIP-28
pins: 1 RESET (in), 2 GND (power) hidden to GND, 3 IRQ (in), 4 NMI (in), 5 VCC (power) hidden to VCC, 6 AB0 (out), 7 AB1 (out), 8 AB2 (out), 9 AB3 (out), 10 AB4 (out), 11 AB5 (out), 12 AB6 (out), 13 AB7 (out), 14 AB8 (out), 15 AB9 (out), 16 AB10 (out), 17 AB11 (out), 18 DB7 (hiz), 19 DB6 (hiz), 20 DB5 (hiz), 21 DB4 (hiz), 22 DB3 (hiz), 23 DB2 (hiz), 24 DB1 (hiz), 25 DB0 (hiz), 26 R/~{W} (out), 27 00IN (in), 28 02OUT (out)

## SY6504
designator U?
footprint DIP-28
pins: 1 RESET (in), 2 GND (power) hidden to GND, 3 IRQ (in), 4 VCC (power) hidden to VCC, 5 AB0 (out), 6 AB1 (out), 7 AB2 (out), 8 AB3 (out), 9 AB4 (out), 10 AB5 (out), 11 AB6 (out), 12 AB7 (out), 13 AB8 (out), 14 AB9 (out), 15 AB10 (out), 16 AB11 (out), 17 AB12 (out), 18 DB7 (hiz), 19 DB6 (hiz), 20 DB5 (hiz), 21 DB4 (hiz), 22 DB3 (hiz), 23 DB2 (hiz), 24 DB1 (hiz), 25 DB0 (hiz), 26 R/~{W} (out), 27 00IN (in), 28 02OUT (out)

## SY6505
designator U?
footprint DIP-28
pins: 1 RESET (in), 2 GND (power) hidden to GND, 3 RDY (in), 4 IRQ (in), 5 VCC (power) hidden to VCC, 6 AB0 (out), 7 AB1 (out), 8 AB2 (out), 9 AB3 (out), 10 AB4 (out), 11 AB5 (out), 12 AB6 (out), 13 AB7 (out), 14 AB8 (out), 15 AB9 (out), 16 AB10 (out), 17 AB11 (out), 18 DB7 (hiz), 19 DB6 (hiz), 20 DB5 (hiz), 21 DB4 (hiz), 22 DB3 (hiz), 23 DB2 (hiz), 24 DB1 (hiz), 25 DB0 (hiz), 26 R/~{W} (out), 27 00IN (in), 28 02OUT (out)

## SY6506
designator U?
footprint DIP-28
pins: 1 RESET (in), 2 GND (power) hidden to GND, 3 01OUT (out), 4 IRQ (in), 5 VCC (power) hidden to VCC, 6 AB0 (out), 7 AB1 (out), 8 AB2 (out), 9 AB3 (out), 10 AB4 (out), 11 AB5 (out), 12 AB6 (out), 13 AB7 (out), 14 AB8 (out), 15 AB9 (out), 16 AB10 (out), 17 AB11 (out), 18 DB7 (hiz), 19 DB6 (hiz), 20 DB5 (hiz), 21 DB4 (hiz), 22 DB3 (hiz), 23 DB2 (hiz), 24 DB1 (hiz), 25 DB0 (hiz), 26 R/~{W} (out), 27 00IN (in), 28 02OUT (out)

## SY6507
designator U?
footprint DIP-28
pins: 1 RESET (in), 2 GND (power) hidden to GND, 3 RDY (in), 4 VCC (power) hidden to VCC, 5 AB0 (out), 6 AB1 (out), 7 AB2 (out), 8 AB3 (out), 9 AB4 (out), 10 AB5 (out), 11 AB6 (out), 12 AB7 (out), 13 AB8 (out), 14 AB9 (out), 15 AB10 (out), 16 AB11 (out), 17 AB12 (out), 18 DB7 (hiz), 19 DB6 (hiz), 20 DB5 (hiz), 21 DB4 (hiz), 22 DB3 (hiz), 23 DB2 (hiz), 24 DB1 (hiz), 25 DB0 (hiz), 26 R/~{W} (out), 27 00IN (in), 28 02OUT (out)